# Altium schematic symbol library HANDS-FREEE-PcbLib-V1.9.SchLib: 157 symbols (part 1 of 2)
Pins are listed as number, name and electrical type; pins without a type are passive.

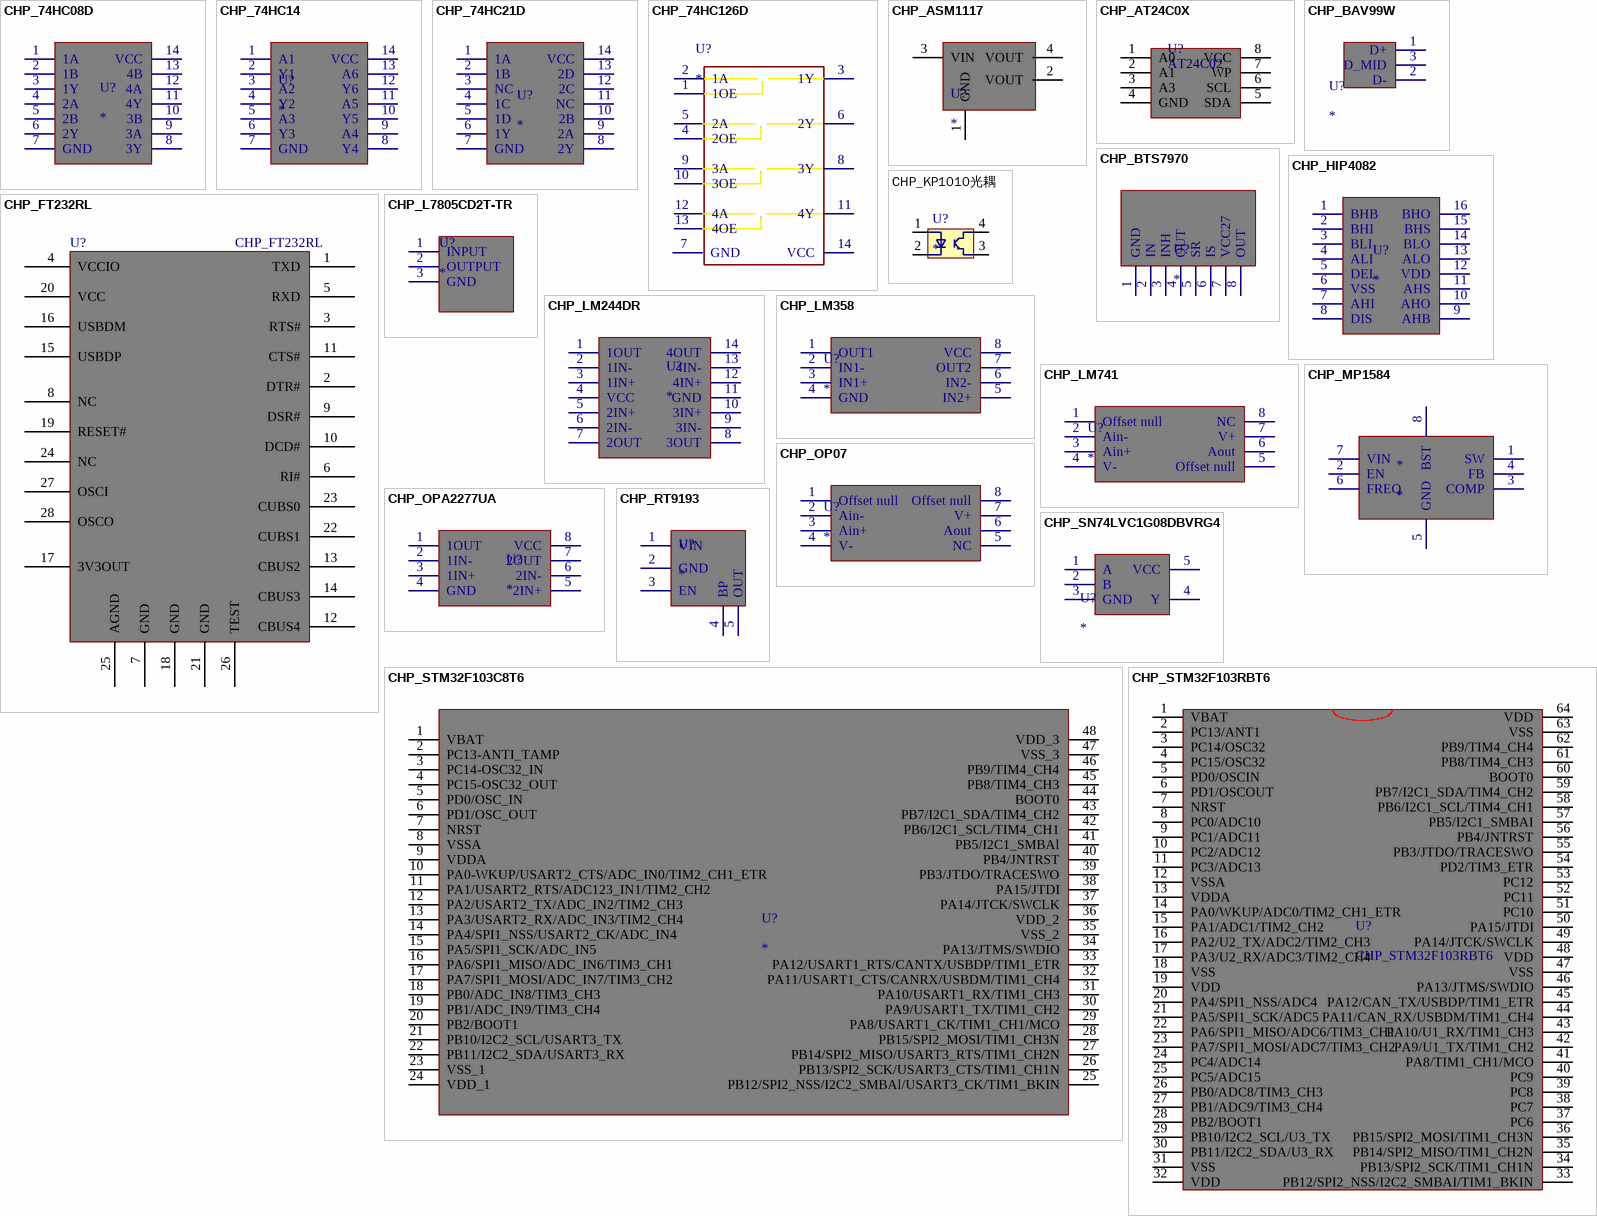
[diagram p0: symbols CHP_74HC08D to CHP_STM32F103RBT6]

## CHP_74HC08D
designator U?
贴片 CHP_74HC08D芯片 SOP_14P
footprint CHP_SOP_14P
pins: 1 1A, 2 1B, 3 1Y, 4 2A, 5 2B , 6 2Y, 7 GND, 8 3Y, 9 3A, 10 3B, 11 4Y, 12 4A, 13 4B, 14 VCC

## CHP_74HC14
designator U?
贴片 74HC14芯片 SOP_14P
footprint CHP_SOP_14P
pins: 1 A1, 2 Y1, 3 A2, 4 Y2, 5 A3, 6 Y3, 7 GND, 8 Y4, 9 A4, 10 Y5, 11 A5, 12 Y6, 13 A6, 14 VCC

## CHP_74HC21D
designator U?
贴片 74HC21D芯片 SOP_14P
footprint CHP_SOP_14P
pins: 1 1A, 2 1B, 3 NC, 4 1C, 5 1D, 6 1Y, 7 GND, 8 2Y, 9 2A, 10 2B, 11 NC, 12 2C, 13 2D, 14 VCC

## CHP_74HC126D
designator U?
贴片 74HC126D芯片 SOP_14P
footprint CHP_SOP_14P
pins: 1 1OE, 2 1A, 3 1Y, 4 2OE, 5 2A, 6 2Y, 7 GND, 8 3Y, 9 3A, 10 3OE, 11 4Y, 12 4A, 13 4OE, 14 VCC

## CHP_ASM1117
designator U?
贴片 AMS1117芯片 SOT223_4P
footprint CHP_SOT223_P_4P (SOT-223/SC-73; 4 Leads; Body 6.7 x 7.3 mm, inc. leads (LxW max))
pins: 1 GND, 2 VOUT, 3 VIN, 4 VOUT

## CHP_AT24C0X
designator U?, comment AT24C02
贴片 AT24芯片 SOP_8P; Value: AT24C0X; Published: 8-Jun-2000; LatestRevisionDate: 17-Jul-2002; LatestRevisionNote: Re-released for DXP Platform.; PackageReference: RB7.6-15; Publisher: Altium Limited
footprint CHP_SOP_8P
pins: 1 A0, 2 A1, 3 A3, 4 GND, 5 SDA, 6 SCL, 7 WP, 8 VCC

## CHP_BAV99W
designator U?
贴片 BAV99W芯片 SOT323_3P
footprint CHP_SOT323_P_3P
pins: 1 D+, 2 D-, 3 D_MID

## CHP_BTS7970
designator U?
贴片 BTS7960芯片 P-TO-263-7
footprint CHP_BTS7970_P-TO-263_7
pins: 1 GND, 2 IN, 3 INH, 4 OUT, 5 SR, 6 IS, 7 VCC27, 8 OUT

## CHP_FT232RL
designator U?
贴片 FT232芯片 SOP_28P
footprint CHP_SOP_28P
pins: 1 TXD, 2 DTR#, 3 RTS#, 4 VCCIO, 5 RXD, 6 RI#, 7 GND, 8 NC, 9 DSR#, 10 DCD#, 11 CTS#, 12 CBUS4, 13 CBUS2, 14 CBUS3, 15 USBDP, 16 USBDM, 17 3V3OUT, 18 GND, 19 RESET#, 20 VCC, 21 GND, 22 CUBS1, 23 CUBS0, 24 NC, 25 AGND, 26 TEST, 27 OSCI, 28 OSCO

## CHP_HIP4082
designator U?
贴片 HIP4082 芯片 SOP16
footprint CHP_SOP_16P
pins: 1 BHB, 2 BHI, 3 BLI, 4 ALI, 5 DEL, 6 VSS, 7 AHI, 8 DIS, 9 AHB, 10 AHO, 11 AHS, 12 VDD, 13 ALO, 14 BLO, 15 BHS, 16 BHO

## CHP_KP1010光耦
designator U?
贴片 K1010光耦 4P
footprint ELE_K1010光耦_4P
pins: 1, 2, 3, 4

## CHP_L7805CD2T-TR
designator U?
贴片 7805芯片 TOD2PAK
footprint CHP_TOD2PAK
pins: 1 INPUT, 2 OUTPUT, 3 GND

## CHP_LM244DR
designator U?
贴片 LM224DR芯片 4路运放 SOP14
footprint CHP_SOP_14P
pins: 1 1OUT, 2 1IN-, 3 1IN+, 4 VCC, 5 2IN+, 6 2IN-, 7 2OUT, 8 3OUT, 9 3IN-, 10 3IN+, 11 GND, 12 4IN+, 13 4IN-, 14 4OUT

## CHP_LM358
designator U?
贴片 LM358芯片 SOP_8P
footprint CHP_SOP_8P
pins: 1 OUT1, 2 IN1-, 3 IN1+, 4 GND, 5 IN2+, 6 IN2-, 7 OUT2, 8 VCC

## CHP_LM741
designator U?
贴片 LM741芯片 SOP_8P
footprint CHP_SOP_8P
pins: 1 Offset null, 2 Ain-, 3 Ain+, 4 V-, 5 Offset null, 6 Aout, 7 V+, 8 NC

## CHP_MP1584
designator *
贴片 MP1584芯片 SOP_8P
footprint CHP_SOP_8P
pins: 1 SW, 2 EN, 3 COMP, 4 FB, 5 GND, 6 FREQ, 7 VIN, 8 BST

## CHP_OP07
designator U?
贴片 OP07芯片 SOP_8P
footprint CHP_SOP_8P
pins: 1 Offset null, 2 Ain-, 3 Ain+, 4 V-, 5 NC, 6 Aout, 7 V+, 8 Offset null

## CHP_OPA2277UA
designator U?
贴片 OPA2277UA芯片 2路运放 SOP8
footprint CHP_SOP_8P
pins: 1 1OUT, 2 1IN-, 3 1IN+, 4 GND, 5 2IN+, 6 2IN-, 7 2OUT, 8 VCC

## CHP_RT9193
designator U?
贴片 RT9193稳压芯片 SOT23_5P 3.3v
footprint CHP_SOT23_P_5P
pins: 1 VIN, 2 GND, 3 EN, 4 BP, 5 OUT

## CHP_SN74LVC1G08DBVRG4
designator U?
贴片 SN74LVC芯片 SOT23_5P
footprint CHP_SOT23_P_5P
pins: 1 A, 2 B, 3 GND, 4 Y, 5 VCC

## CHP_STM32F103C8T6
designator U?
贴片 STM32 LQFP_48P
footprint CHP_LQFP_48P (Thin QFP, 48-Leads, Body 7x7mm, Pitch 0.5mm, IPC High Density)
pins: 1 VBAT, 2 PC13-ANTI_TAMP, 3 PC14-OSC32_IN, 4 PC15-OSC32_OUT, 5 PD0/OSC_IN, 6 PD1/OSC_OUT, 7 NRST, 8 VSSA, 9 VDDA, 10 PA0-WKUP/USART2_CTS/ADC_IN0/TIM2_CH1_ETR, 11 PA1/USART2_RTS/ADC123_IN1/TIM2_CH2, 12 PA2/USART2_TX/ADC_IN2/TIM2_CH3, 13 PA3/USART2_RX/ADC_IN3/TIM2_CH4, 14 PA4/SPI1_NSS/USART2_CK/ADC_IN4, 15 PA5/SPI1_SCK/ADC_IN5, 16 PA6/SPI1_MISO/ADC_IN6/TIM3_CH1, 17 PA7/SPI1_MOSI/ADC_IN7/TIM3_CH2, 18 PB0/ADC_IN8/TIM3_CH3, 19 PB1/ADC_IN9/TIM3_CH4, 20 PB2/BOOT1, 21 PB10/I2C2_SCL/USART3_TX, 22 PB11/I2C2_SDA/USART3_RX, 23 VSS_1, 24 VDD_1, 25 PB12/SPI2_NSS/I2C2_SMBAl/USART3_CK/TIM1_BKIN, 26 PB13/SPI2_SCK/USART3_CTS/TIM1_CH1N, 27 PB14/SPI2_MISO/USART3_RTS/TIM1_CH2N, 28 PB15/SPI2_MOSI/TIM1_CH3N, 29 PA8/USART1_CK/TIM1_CH1/MCO, 30 PA9/USART1_TX/TIM1_CH2, 31 PA10/USART1_RX/TIM1_CH3, 32 PA11/USART1_CTS/CANRX/USBDM/TIM1_CH4, 33 PA12/USART1_RTS/CANTX/USBDP/TIM1_ETR, 34 PA13/JTMS/SWDIO, 35 VSS_2, 36 VDD_2, 37 PA14/JTCK/SWCLK, 38 PA15/JTDI, 39 PB3/JTDO/TRACESWO, 40 PB4/JNTRST, 41 PB5/I2C1_SMBAl, 42 PB6/I2C1_SCL/TIM4_CH1, 43 PB7/I2C1_SDA/TIM4_CH2, 44 BOOT0, 45 PB8/TIM4_CH3, 46 PB9/TIM4_CH4, 47 VSS_3, 48 VDD_3

## CHP_STM32F103RBT6
designator U?
贴片 STM32 LQFP_64P
footprint CHP_LQFP_64P
pins: 1 VBAT, 2 PC13/ANT1, 3 PC14/OSC32, 4 PC15/OSC32, 5 PD0/OSCIN, 6 PD1/OSCOUT, 7 NRST, 8 PC0/ADC10, 9 PC1/ADC11, 10 PC2/ADC12, 11 PC3/ADC13, 12 VSSA, 13 VDDA, 14 PA0/WKUP/ADC0/TIM2_CH1_ETR, 15 PA1/ADC1/TIM2_CH2, 16 PA2/U2_TX/ADC2/TIM2_CH3, 17 PA3/U2_RX/ADC3/TIM2_CH4, 18 VSS, 19 VDD, 20 PA4/SPI1_NSS/ADC4, 21 PA5/SPI1_SCK/ADC5, 22 PA6/SPI1_MISO/ADC6/TIM3_CH1, 23 PA7/SPI1_MOSI/ADC7/TIM3_CH2, 24 PC4/ADC14, 25 PC5/ADC15, 26 PB0/ADC8/TIM3_CH3, 27 PB1/ADC9/TIM3_CH4, 28 PB2/BOOT1, 29 PB10/I2C2_SCL/U3_TX, 30 PB11/I2C2_SDA/U3_RX, 31 VSS, 32 VDD, 33 PB12/SPI2_NSS/I2C2_SMBAI/TIM1_BKIN, 34 PB13/SPI2_SCK/TIM1_CH1N, 35 PB14/SPI2_MISO/TIM1_CH2N, 36 PB15/SPI2_MOSI/TIM1_CH3N, 37 PC6, 38 PC7, 39 PC8, 40 PC9, 41 PA8/TIM1_CH1/MCO, 42 PA9/U1_TX/TIM1_CH2, 43 PA10/U1_RX/TIM1_CH3, 44 PA11/CAN_RX/USBDM/TIM1_CH4, 45 PA12/CAN_TX/USBDP/TIM1_ETR, 46 PA13/JTMS/SWDIO, 47 VSS, 48 VDD, 49 PA14/JTCK/SWCLK, 50 PA15/JTDI, 51 PC10, 52 PC11, 53 PC12, 54 PD2/TIM3_ETR, 55 PB3/JTDO/TRACESWO, 56 PB4/JNTRST, 57 PB5/I2C1_SMBAI, 58 PB6/I2C1_SCL/TIM4_CH1, 59 PB7/I2C1_SDA/TIM4_CH2, 60 BOOT0, 61 PB8/TIM4_CH3, 62 PB9/TIM4_CH4, 63 VSS, 64 VDD

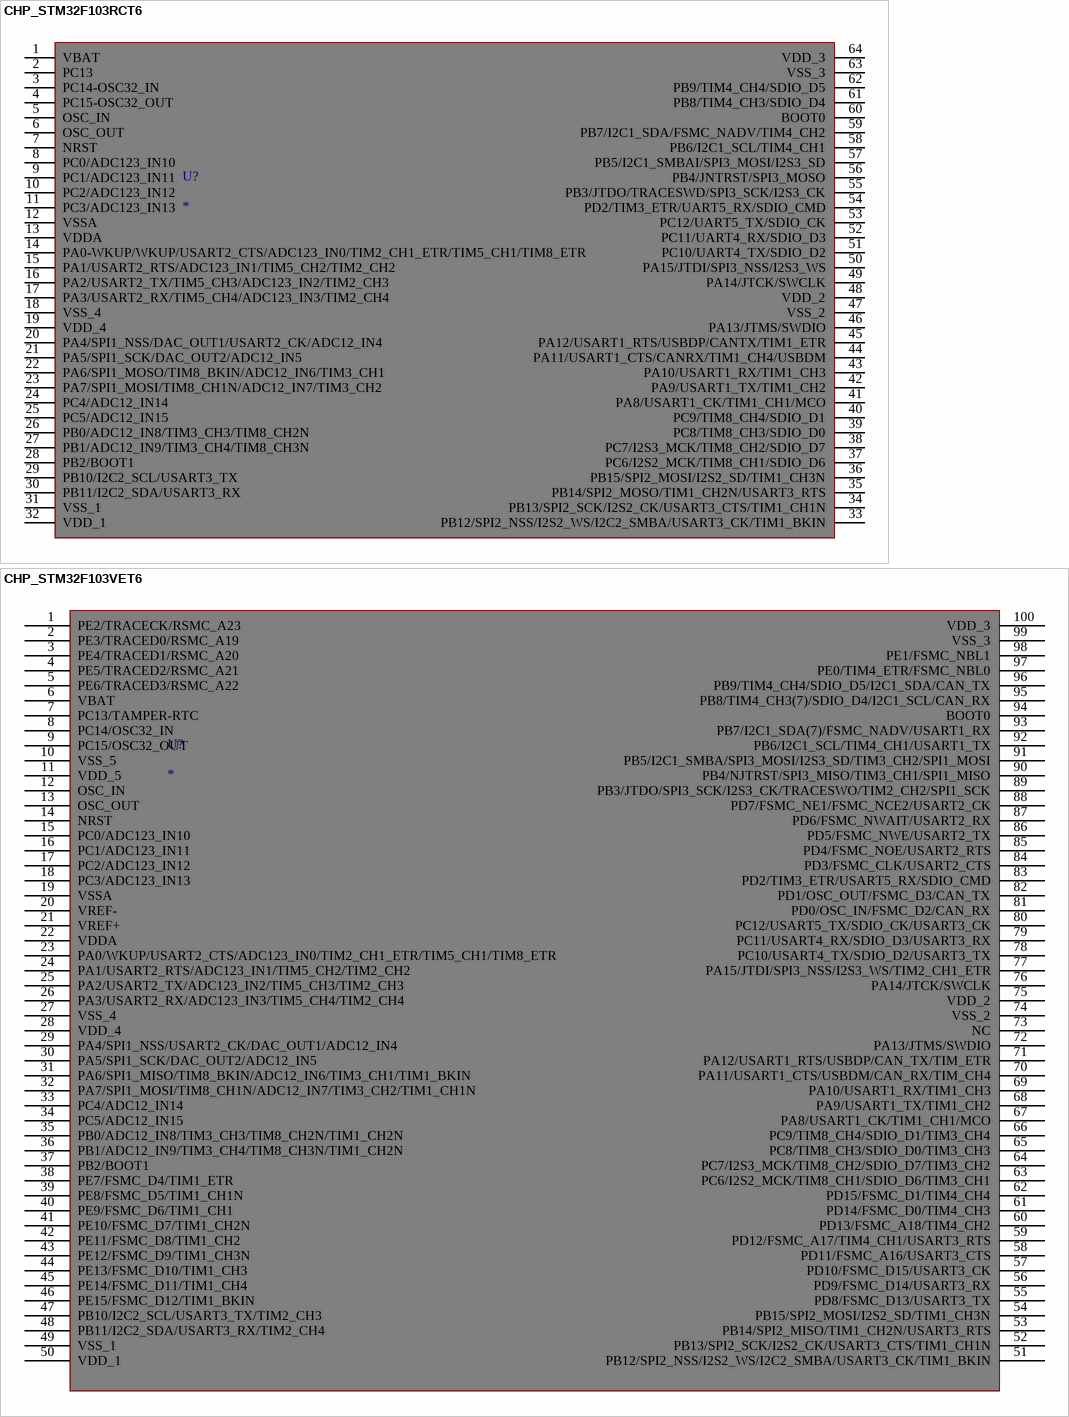
[diagram p1: symbols CHP_STM32F103RCT6 to CHP_STM32F103VET6]

## CHP_STM32F103RCT6
designator U?
贴片 STM32 LQFP_64P
footprint CHP_LQFP_64P
pins: 1 VBAT, 2 PC13, 3 PC14-OSC32_IN, 4 PC15-OSC32_OUT, 5 OSC_IN, 6 OSC_OUT, 7 NRST, 8 PC0/ADC123_IN10, 9 PC1/ADC123_IN11, 10 PC2/ADC123_IN12, 11 PC3/ADC123_IN13, 12 VSSA, 13 VDDA, 14 PA0-WKUP/WKUP/USART2_CTS/ADC123_IN0/TIM2_CH1_ETR/TIM5_CH1/TIM8_ETR, 15 PA1/USART2_RTS/ADC123_IN1/TIM5_CH2/TIM2_CH2, 16 PA2/USART2_TX/TIM5_CH3/ADC123_IN2/TIM2_CH3, 17 PA3/USART2_RX/TIM5_CH4/ADC123_IN3/TIM2_CH4, 18 VSS_4, 19 VDD_4, 20 PA4/SPI1_NSS/DAC_OUT1/USART2_CK/ADC12_IN4, 21 PA5/SPI1_SCK/DAC_OUT2/ADC12_IN5, 22 PA6/SPI1_MOSO/TIM8_BKIN/ADC12_IN6/TIM3_CH1, 23 PA7/SPI1_MOSI/TIM8_CH1N/ADC12_IN7/TIM3_CH2, 24 PC4/ADC12_IN14, 25 PC5/ADC12_IN15, 26 PB0/ADC12_IN8/TIM3_CH3/TIM8_CH2N, 27 PB1/ADC12_IN9/TIM3_CH4/TIM8_CH3N, 28 PB2/BOOT1, 29 PB10/I2C2_SCL/USART3_TX, 30 PB11/I2C2_SDA/USART3_RX, 31 VSS_1, 32 VDD_1, 33 PB12/SPI2_NSS/I2S2_WS/I2C2_SMBA/USART3_CK/TIM1_BKIN, 34 PB13/SPI2_SCK/I2S2_CK/USART3_CTS/TIM1_CH1N, 35 PB14/SPI2_MOSO/TIM1_CH2N/USART3_RTS, 36 PB15/SPI2_MOSI/I2S2_SD/TIM1_CH3N, 37 PC6/I2S2_MCK/TIM8_CH1/SDIO_D6, 38 PC7/I2S3_MCK/TIM8_CH2/SDIO_D7, 39 PC8/TIM8_CH3/SDIO_D0, 40 PC9/TIM8_CH4/SDIO_D1, 41 PA8/USART1_CK/TIM1_CH1/MCO, 42 PA9/USART1_TX/TIM1_CH2, 43 PA10/USART1_RX/TIM1_CH3, 44 PA11/USART1_CTS/CANRX/TIM1_CH4/USBDM, 45 PA12/USART1_RTS/USBDP/CANTX/TIM1_ETR, 46 PA13/JTMS/SWDIO, 47 VSS_2, 48 VDD_2, 49 PA14/JTCK/SWCLK, 50 PA15/JTDI/SPI3_NSS/I2S3_WS, 51 PC10/UART4_TX/SDIO_D2, 52 PC11/UART4_RX/SDIO_D3, 53 PC12/UART5_TX/SDIO_CK, 54 PD2/TIM3_ETR/UART5_RX/SDIO_CMD, 55 PB3/JTDO/TRACESWD/SPI3_SCK/I2S3_CK, 56 PB4/JNTRST/SPI3_MOSO, 57 PB5/I2C1_SMBAI/SPI3_MOSI/I2S3_SD, 58 PB6/I2C1_SCL/TIM4_CH1, 59 PB7/I2C1_SDA/FSMC_NADV/TIM4_CH2, 60 BOOT0, 61 PB8/TIM4_CH3/SDIO_D4, 62 PB9/TIM4_CH4/SDIO_D5, 63 VSS_3, 64 VDD_3

## CHP_STM32F103VET6
designator U?
贴片 STM32 LQFP_100P
footprint CHP_LQFP_100P (TSQFP, 100-Leads, Body 16.0x16.0mm (max), Pitch 0.50mm, IPC Medium Density)
pins: 1 PE2/TRACECK/RSMC_A23, 2 PE3/TRACED0/RSMC_A19, 3 PE4/TRACED1/RSMC_A20, 4 PE5/TRACED2/RSMC_A21, 5 PE6/TRACED3/RSMC_A22, 6 VBAT, 7 PC13/TAMPER-RTC, 8 PC14/OSC32_IN, 9 PC15/OSC32_OUT, 10 VSS_5, 11 VDD_5, 12 OSC_IN, 13 OSC_OUT, 14 NRST, 15 PC0/ADC123_IN10, 16 PC1/ADC123_IN11, 17 PC2/ADC123_IN12, 18 PC3/ADC123_IN13, 19 VSSA, 20 VREF-, 21 VREF+, 22 VDDA, 23 PA0/WKUP/USART2_CTS/ADC123_IN0/TIM2_CH1_ETR/TIM5_CH1/TIM8_ETR, 24 PA1/USART2_RTS/ADC123_IN1/TIM5_CH2/TIM2_CH2, 25 PA2/USART2_TX/ADC123_IN2/TIM5_CH3/TIM2_CH3, 26 PA3/USART2_RX/ADC123_IN3/TIM5_CH4/TIM2_CH4, 27 VSS_4, 28 VDD_4, 29 PA4/SPI1_NSS/USART2_CK/DAC_OUT1/ADC12_IN4, 30 PA5/SPI1_SCK/DAC_OUT2/ADC12_IN5, 31 PA6/SPI1_MISO/TIM8_BKIN/ADC12_IN6/TIM3_CH1/TIM1_BKIN, 32 PA7/SPI1_MOSI/TIM8_CH1N/ADC12_IN7/TIM3_CH2/TIM1_CH1N, 33 PC4/ADC12_IN14, 34 PC5/ADC12_IN15, 35 PB0/ADC12_IN8/TIM3_CH3/TIM8_CH2N/TIM1_CH2N, 36 PB1/ADC12_IN9/TIM3_CH4/TIM8_CH3N/TIM1_CH2N, 37 PB2/BOOT1, 38 PE7/FSMC_D4/TIM1_ETR, 39 PE8/FSMC_D5/TIM1_CH1N, 40 PE9/FSMC_D6/TIM1_CH1, 41 PE10/FSMC_D7/TIM1_CH2N, 42 PE11/FSMC_D8/TIM1_CH2, 43 PE12/FSMC_D9/TIM1_CH3N, 44 PE13/FSMC_D10/TIM1_CH3, 45 PE14/FSMC_D11/TIM1_CH4, 46 PE15/FSMC_D12/TIM1_BKIN, 47 PB10/I2C2_SCL/USART3_TX/TIM2_CH3, 48 PB11/I2C2_SDA/USART3_RX/TIM2_CH4, 49 VSS_1, 50 VDD_1, 51 PB12/SPI2_NSS/I2S2_WS/I2C2_SMBA/USART3_CK/TIM1_BKIN, 52 PB13/SPI2_SCK/I2S2_CK/USART3_CTS/TIM1_CH1N, 53 PB14/SPI2_MISO/TIM1_CH2N/USART3_RTS, 54 PB15/SPI2_MOSI/I2S2_SD/TIM1_CH3N, 55 PD8/FSMC_D13/USART3_TX, 56 PD9/FSMC_D14/USART3_RX, 57 PD10/FSMC_D15/USART3_CK, 58 PD11/FSMC_A16/USART3_CTS, 59 PD12/FSMC_A17/TIM4_CH1/USART3_RTS, 60 PD13/FSMC_A18/TIM4_CH2, 61 PD14/FSMC_D0/TIM4_CH3, 62 PD15/FSMC_D1/TIM4_CH4, 63 PC6/I2S2_MCK/TIM8_CH1/SDIO_D6/TIM3_CH1, 64 PC7/I2S3_MCK/TIM8_CH2/SDIO_D7/TIM3_CH2, 65 PC8/TIM8_CH3/SDIO_D0/TIM3_CH3, 66 PC9/TIM8_CH4/SDIO_D1/TIM3_CH4, 67 PA8/USART1_CK/TIM1_CH1/MCO, 68 PA9/USART1_TX/TIM1_CH2, 69 PA10/USART1_RX/TIM1_CH3, 70 PA11/USART1_CTS/USBDM/CAN_RX/TIM_CH4, 71 PA12/USART1_RTS/USBDP/CAN_TX/TIM_ETR, 72 PA13/JTMS/SWDIO, 73 NC, 74 VSS_2, 75 VDD_2, 76 PA14/JTCK/SWCLK, 77 PA15/JTDI/SPI3_NSS/I2S3_WS/TIM2_CH1_ETR, 78 PC10/USART4_TX/SDIO_D2/USART3_TX, 79 PC11/USART4_RX/SDIO_D3/USART3_RX, 80 PC12/USART5_TX/SDIO_CK/USART3_CK, 81 PD0/OSC_IN/FSMC_D2/CAN_RX, 82 PD1/OSC_OUT/FSMC_D3/CAN_TX, 83 PD2/TIM3_ETR/USART5_RX/SDIO_CMD, 84 PD3/FSMC_CLK/USART2_CTS, 85 PD4/FSMC_NOE/USART2_RTS, 86 PD5/FSMC_NWE/USART2_TX, 87 PD6/FSMC_NWAIT/USART2_RX, 88 PD7/FSMC_NE1/FSMC_NCE2/USART2_CK, 89 PB3/JTDO/SPI3_SCK/I2S3_CK/TRACESWO/TIM2_CH2/SPI1_SCK, 90 PB4/NJTRST/SPI3_MISO/TIM3_CH1/SPI1_MISO, 91 PB5/I2C1_SMBA/SPI3_MOSI/I2S3_SD/TIM3_CH2/SPI1_MOSI, 92 PB6/I2C1_SCL/TIM4_CH1/USART1_TX, 93 PB7/I2C1_SDA(7)/FSMC_NADV/USART1_RX, 94 BOOT0, 95 PB8/TIM4_CH3(7)/SDIO_D4/I2C1_SCL/CAN_RX, 96 PB9/TIM4_CH4/SDIO_D5/I2C1_SDA/CAN_TX, 97 PE0/TIM4_ETR/FSMC_NBL0, 98 PE1/FSMC_NBL1, 99 VSS_3, 100 VDD_3

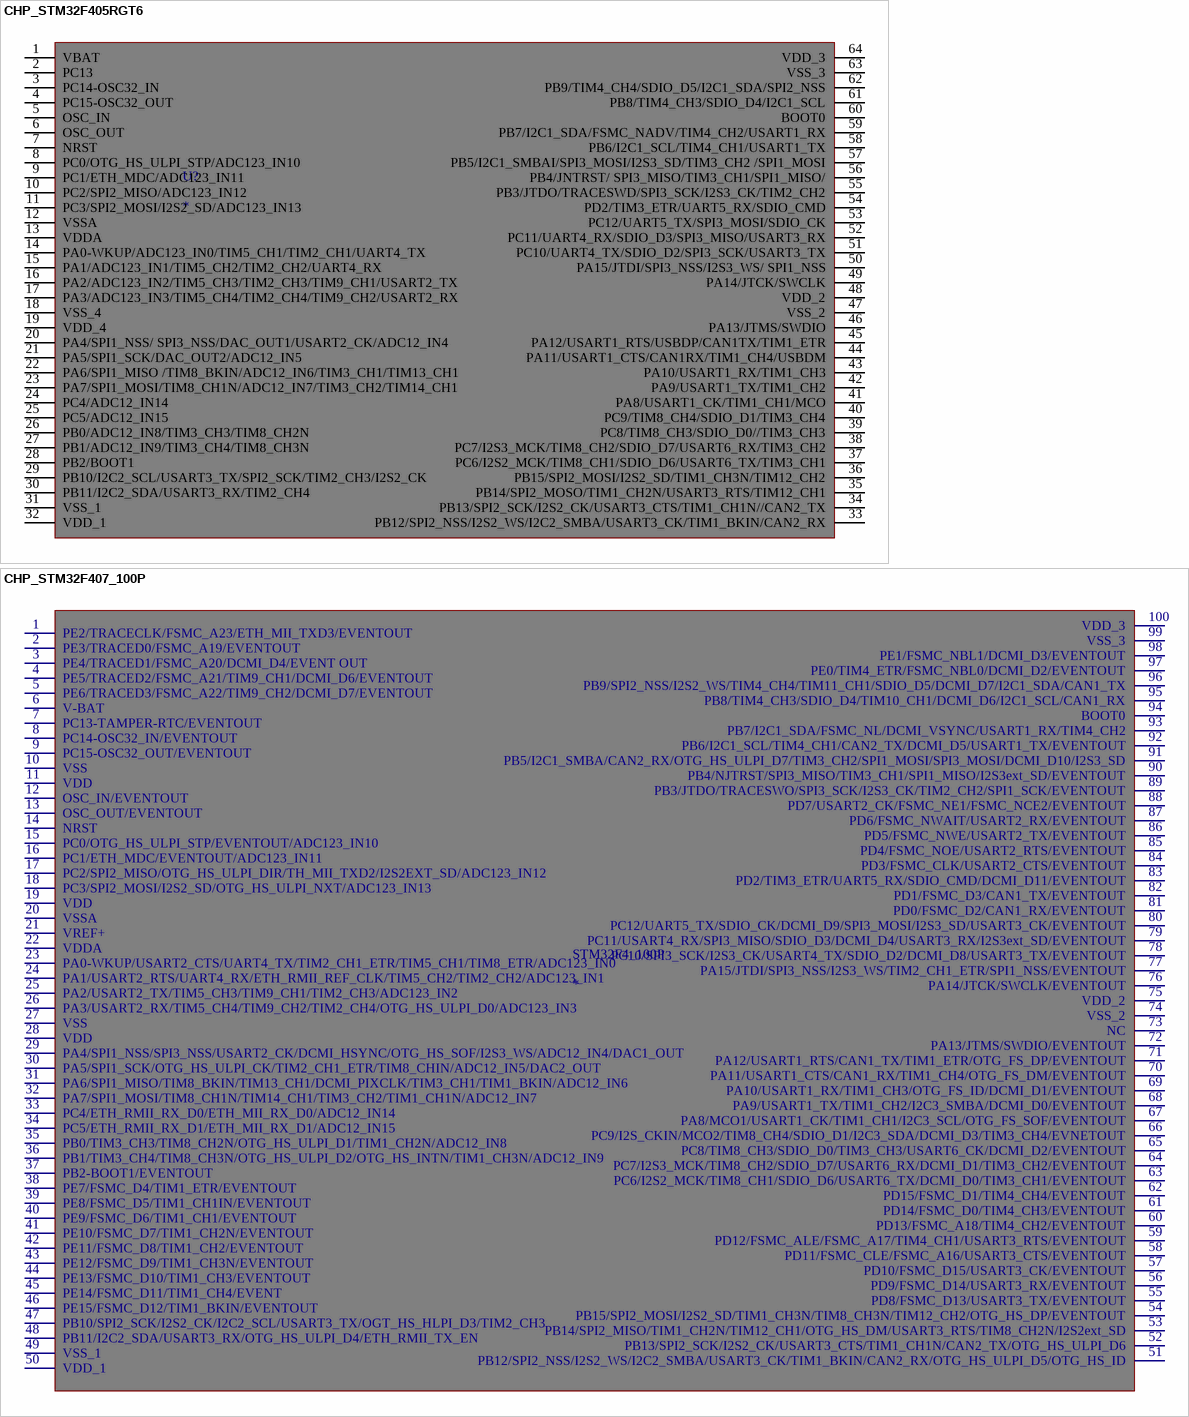
[diagram p2: symbols CHP_STM32F405RGT6 to CHP_STM32F407_100P]

## CHP_STM32F405RGT6
designator U?
贴片 STM32 LQFP_64P
footprint CHP_LQFP_64P
pins: 1 VBAT, 2 PC13, 3 PC14-OSC32_IN, 4 PC15-OSC32_OUT, 5 OSC_IN, 6 OSC_OUT, 7 NRST, 8 PC0/OTG_HS_ULPI_STP/ADC123_IN10, 9 PC1/ETH_MDC/ADC123_IN11, 10 PC2/SPI2_MISO/ADC123_IN12, 11 PC3/SPI2_MOSI/I2S2_SD/ADC123_IN13, 12 VSSA, 13 VDDA, 14 PA0-WKUP/ADC123_IN0/TIM5_CH1/TIM2_CH1/UART4_TX, 15 PA1/ADC123_IN1/TIM5_CH2/TIM2_CH2/UART4_RX, 16 PA2/ADC123_IN2/TIM5_CH3/TIM2_CH3/TIM9_CH1/USART2_TX, 17 PA3/ADC123_IN3/TIM5_CH4/TIM2_CH4/TIM9_CH2/USART2_RX, 18 VSS_4, 19 VDD_4, 20 PA4/SPI1_NSS/ SPI3_NSS/DAC_OUT1/USART2_CK/ADC12_IN4, 21 PA5/SPI1_SCK/DAC_OUT2/ADC12_IN5, 22 PA6/SPI1_MISO /TIM8_BKIN/ADC12_IN6/TIM3_CH1/TIM13_CH1, 23 PA7/SPI1_MOSI/TIM8_CH1N/ADC12_IN7/TIM3_CH2/TIM14_CH1, 24 PC4/ADC12_IN14, 25 PC5/ADC12_IN15, 26 PB0/ADC12_IN8/TIM3_CH3/TIM8_CH2N, 27 PB1/ADC12_IN9/TIM3_CH4/TIM8_CH3N, 28 PB2/BOOT1, 29 PB10/I2C2_SCL/USART3_TX/SPI2_SCK/TIM2_CH3/I2S2_CK, 30 PB11/I2C2_SDA/USART3_RX/TIM2_CH4, 31 VSS_1, 32 VDD_1, 33 PB12/SPI2_NSS/I2S2_WS/I2C2_SMBA/USART3_CK/TIM1_BKIN/CAN2_RX, 34 PB13/SPI2_SCK/I2S2_CK/USART3_CTS/TIM1_CH1N//CAN2_TX, 35 PB14/SPI2_MOSO/TIM1_CH2N/USART3_RTS/TIM12_CH1, 36 PB15/SPI2_MOSI/I2S2_SD/TIM1_CH3N/TIM12_CH2, 37 PC6/I2S2_MCK/TIM8_CH1/SDIO_D6/USART6_TX/TIM3_CH1, 38 PC7/I2S3_MCK/TIM8_CH2/SDIO_D7/USART6_RX/TIM3_CH2, 39 PC8/TIM8_CH3/SDIO_D0//TIM3_CH3, 40 PC9/TIM8_CH4/SDIO_D1/TIM3_CH4, 41 PA8/USART1_CK/TIM1_CH1/MCO, 42 PA9/USART1_TX/TIM1_CH2, 43 PA10/USART1_RX/TIM1_CH3, 44 PA11/USART1_CTS/CAN1RX/TIM1_CH4/USBDM, 45 PA12/USART1_RTS/USBDP/CAN1TX/TIM1_ETR, 46 PA13/JTMS/SWDIO, 47 VSS_2, 48 VDD_2, 49 PA14/JTCK/SWCLK, 50 PA15/JTDI/SPI3_NSS/I2S3_WS/ SPI1_NSS, 51 PC10/UART4_TX/SDIO_D2/SPI3_SCK/USART3_TX, 52 PC11/UART4_RX/SDIO_D3/SPI3_MISO/USART3_RX, 53 PC12/UART5_TX/SPI3_MOSI/SDIO_CK, 54 PD2/TIM3_ETR/UART5_RX/SDIO_CMD, 55 PB3/JTDO/TRACESWD/SPI3_SCK/I2S3_CK/TIM2_CH2, 56 PB4/JNTRST/ SPI3_MISO/TIM3_CH1/SPI1_MISO/, 57 PB5/I2C1_SMBAI/SPI3_MOSI/I2S3_SD/TIM3_CH2 /SPI1_MOSI, 58 PB6/I2C1_SCL/TIM4_CH1/USART1_TX, 59 PB7/I2C1_SDA/FSMC_NADV/TIM4_CH2/USART1_RX, 60 BOOT0, 61 PB8/TIM4_CH3/SDIO_D4/I2C1_SCL, 62 PB9/TIM4_CH4/SDIO_D5/I2C1_SDA/SPI2_NSS, 63 VSS_3, 64 VDD_3

## CHP_STM32F407_100P
designator STM32F4_100P
贴片 STM32 LQFP_100P
footprint CHP_LQFP_100P (TSQFP, 100-Leads, Body 16.0x16.0mm (max), Pitch 0.50mm, IPC Medium Density)
pins: 1 PE2/TRACECLK/FSMC_A23/ETH_MII_TXD3/EVENTOUT, 2 PE3/TRACED0/FSMC_A19/EVENTOUT, 3 PE4/TRACED1/FSMC_A20/DCMI_D4/EVENT OUT, 4 PE5/TRACED2/FSMC_A21/TIM9_CH1/DCMI_D6/EVENTOUT, 5 PE6/TRACED3/FSMC_A22/TIM9_CH2/DCMI_D7/EVENTOUT, 6 V-BAT, 7 PC13-TAMPER-RTC/EVENTOUT, 8 PC14-OSC32_IN/EVENTOUT, 9 PC15-OSC32_OUT/EVENTOUT, 10 VSS, 11 VDD, 12 OSC_IN/EVENTOUT, 13 OSC_OUT/EVENTOUT, 14 NRST, 15 PC0/OTG_HS_ULPI_STP/EVENTOUT/ADC123_IN10, 16 PC1/ETH_MDC/EVENTOUT/ADC123_IN11, 17 PC2/SPI2_MISO/OTG_HS_ULPI_DIR/TH_MII_TXD2/I2S2EXT_SD/ADC123_IN12, 18 PC3/SPI2_MOSI/I2S2_SD/OTG_HS_ULPI_NXT/ADC123_IN13, 19 VDD, 20 VSSA, 21 VREF+, 22 VDDA, 23 PA0-WKUP/USART2_CTS/UART4_TX/TIM2_CH1_ETR/TIM5_CH1/TIM8_ETR/ADC123_IN0, 24 PA1/USART2_RTS/UART4_RX/ETH_RMII_REF_CLK/TIM5_CH2/TIM2_CH2/ADC123_IN1, 25 PA2/USART2_TX/TIM5_CH3/TIM9_CH1/TIM2_CH3/ADC123_IN2, 26 PA3/USART2_RX/TIM5_CH4/TIM9_CH2/TIM2_CH4/OTG_HS_ULPI_D0/ADC123_IN3, 27 VSS, 28 VDD, 29 PA4/SPI1_NSS/SPI3_NSS/USART2_CK/DCMI_HSYNC/OTG_HS_SOF/I2S3_WS/ADC12_IN4/DAC1_OUT, 30 PA5/SPI1_SCK/OTG_HS_ULPI_CK/TIM2_CH1_ETR/TIM8_CHIN/ADC12_IN5/DAC2_OUT, 31 PA6/SPI1_MISO/TIM8_BKIN/TIM13_CH1/DCMI_PIXCLK/TIM3_CH1/TIM1_BKIN/ADC12_IN6, 32 PA7/SPI1_MOSI/TIM8_CH1N/TIM14_CH1/TIM3_CH2/TIM1_CH1N/ADC12_IN7, 33 PC4/ETH_RMII_RX_D0/ETH_MII_RX_D0/ADC12_IN14, 34 PC5/ETH_RMII_RX_D1/ETH_MII_RX_D1/ADC12_IN15, 35 PB0/TIM3_CH3/TIM8_CH2N/OTG_HS_ULPI_D1/TIM1_CH2N/ADC12_IN8, 36 PB1/TIM3_CH4/TIM8_CH3N/OTG_HS_ULPI_D2/OTG_HS_INTN/TIM1_CH3N/ADC12_IN9, 37 PB2-BOOT1/EVENTOUT, 38 PE7/FSMC_D4/TIM1_ETR/EVENTOUT, 39 PE8/FSMC_D5/TIM1_CH1IN/EVENTOUT, 40 PE9/FSMC_D6/TIM1_CH1/EVENTOUT, 41 PE10/FSMC_D7/TIM1_CH2N/EVENTOUT, 42 PE11/FSMC_D8/TIM1_CH2/EVENTOUT, 43 PE12/FSMC_D9/TIM1_CH3N/EVENTOUT, 44 PE13/FSMC_D10/TIM1_CH3/EVENTOUT, 45 PE14/FSMC_D11/TIM1_CH4/EVENT, 46 PE15/FSMC_D12/TIM1_BKIN/EVENTOUT, 47 PB10/SPI2_SCK/I2S2_CK/I2C2_SCL/USART3_TX/OGT_HS_HLPI_D3/TIM2_CH3, 48 PB11/I2C2_SDA/USART3_RX/OTG_HS_ULPI_D4/ETH_RMII_TX_EN, 49 VSS_1, 50 VDD_1, 51 PB12/SPI2_NSS/I2S2_WS/I2C2_SMBA/USART3_CK/TIM1_BKIN/CAN2_RX/OTG_HS_ULPI_D5/OTG_HS_ID, 52 PB13/SPI2_SCK/I2S2_CK/USART3_CTS/TIM1_CH1N/CAN2_TX/OTG_HS_ULPI_D6, 53 PB14/SPI2_MISO/TIM1_CH2N/TIM12_CH1/OTG_HS_DM/USART3_RTS/TIM8_CH2N/I2S2ext_SD, 54 PB15/SPI2_MOSI/I2S2_SD/TIM1_CH3N/TIM8_CH3N/TIM12_CH2/OTG_HS_DP/EVENTOUT, 55 PD8/FSMC_D13/USART3_TX/EVENTOUT, 56 PD9/FSMC_D14/USART3_RX/EVENTOUT, 57 PD10/FSMC_D15/USART3_CK/EVENTOUT, 58 PD11/FSMC_CLE/FSMC_A16/USART3_CTS/EVENTOUT, 59 PD12/FSMC_ALE/FSMC_A17/TIM4_CH1/USART3_RTS/EVENTOUT, 60 PD13/FSMC_A18/TIM4_CH2/EVENTOUT, 61 PD14/FSMC_D0/TIM4_CH3/EVENTOUT, 62 PD15/FSMC_D1/TIM4_CH4/EVENTOUT, 63 PC6/I2S2_MCK/TIM8_CH1/SDIO_D6/USART6_TX/DCMI_D0/TIM3_CH1/EVENTOUT, 64 PC7/I2S3_MCK/TIM8_CH2/SDIO_D7/USART6_RX/DCMI_D1/TIM3_CH2/EVENTOUT, 65 PC8/TIM8_CH3/SDIO_D0/TIM3_CH3/USART6_CK/DCMI_D2/EVENTOUT, 66 PC9/I2S_CKIN/MCO2/TIM8_CH4/SDIO_D1/I2C3_SDA/DCMI_D3/TIM3_CH4/EVNETOUT, 67 PA8/MCO1/USART1_CK/TIM1_CH1/I2C3_SCL/OTG_FS_SOF/EVENTOUT, 68 PA9/USART1_TX/TIM1_CH2/I2C3_SMBA/DCMI_D0/EVENTOUT, 69 PA10/USART1_RX/TIM1_CH3/OTG_FS_ID/DCMI_D1/EVENTOUT, 70 PA11/USART1_CTS/CAN1_RX/TIM1_CH4/OTG_FS_DM/EVENTOUT, 71 PA12/USART1_RTS/CAN1_TX/TIM1_ETR/OTG_FS_DP/EVENTOUT, 72 PA13/JTMS/SWDIO/EVENTOUT, 73 NC, 74 VSS_2, 75 VDD_2, 76 PA14/JTCK/SWCLK/EVENTOUT, 77 PA15/JTDI/SPI3_NSS/I2S3_WS/TIM2_CH1_ETR/SPI1_NSS/EVENTOUT, 78 PC10/SPI3_SCK/I2S3_CK/USART4_TX/SDIO_D2/DCMI_D8/USART3_TX/EVENTOUT, 79 PC11/USART4_RX/SPI3_MISO/SDIO_D3/DCMI_D4/USART3_RX/I2S3ext_SD/EVENTOUT, 80 PC12/UART5_TX/SDIO_CK/DCMI_D9/SPI3_MOSI/I2S3_SD/USART3_CK/EVENTOUT, 81 PD0/FSMC_D2/CAN1_RX/EVENTOUT, 82 PD1/FSMC_D3/CAN1_TX/EVENTOUT, 83 PD2/TIM3_ETR/UART5_RX/SDIO_CMD/DCMI_D11/EVENTOUT, 84 PD3/FSMC_CLK/USART2_CTS/EVENTOUT, 85 PD4/FSMC_NOE/USART2_RTS/EVENTOUT, 86 PD5/FSMC_NWE/USART2_TX/EVENTOUT, 87 PD6/FSMC_NWAIT/USART2_RX/EVENTOUT, 88 PD7/USART2_CK/FSMC_NE1/FSMC_NCE2/EVENTOUT, 89 PB3/JTDO/TRACESWO/SPI3_SCK/I2S3_CK/TIM2_CH2/SPI1_SCK/EVENTOUT, 90 PB4/NJTRST/SPI3_MISO/TIM3_CH1/SPI1_MISO/I2S3ext_SD/EVENTOUT, 91 PB5/I2C1_SMBA/CAN2_RX/OTG_HS_ULPI_D7/TIM3_CH2/SPI1_MOSI/SPI3_MOSI/DCMI_D10/I2S3_SD, 92 PB6/I2C1_SCL/TIM4_CH1/CAN2_TX/DCMI_D5/USART1_TX/EVENTOUT, 93 PB7/I2C1_SDA/FSMC_NL/DCMI_VSYNC/USART1_RX/TIM4_CH2, 94 BOOT0, 95 PB8/TIM4_CH3/SDIO_D4/TIM10_CH1/DCMI_D6/I2C1_SCL/CAN1_RX, 96 PB9/SPI2_NSS/I2S2_WS/TIM4_CH4/TIM11_CH1/SDIO_D5/DCMI_D7/I2C1_SDA/CAN1_TX, 97 PE0/TIM4_ETR/FSMC_NBL0/DCMI_D2/EVENTOUT, 98 PE1/FSMC_NBL1/DCMI_D3/EVENTOUT, 99 VSS_3, 100 VDD_3

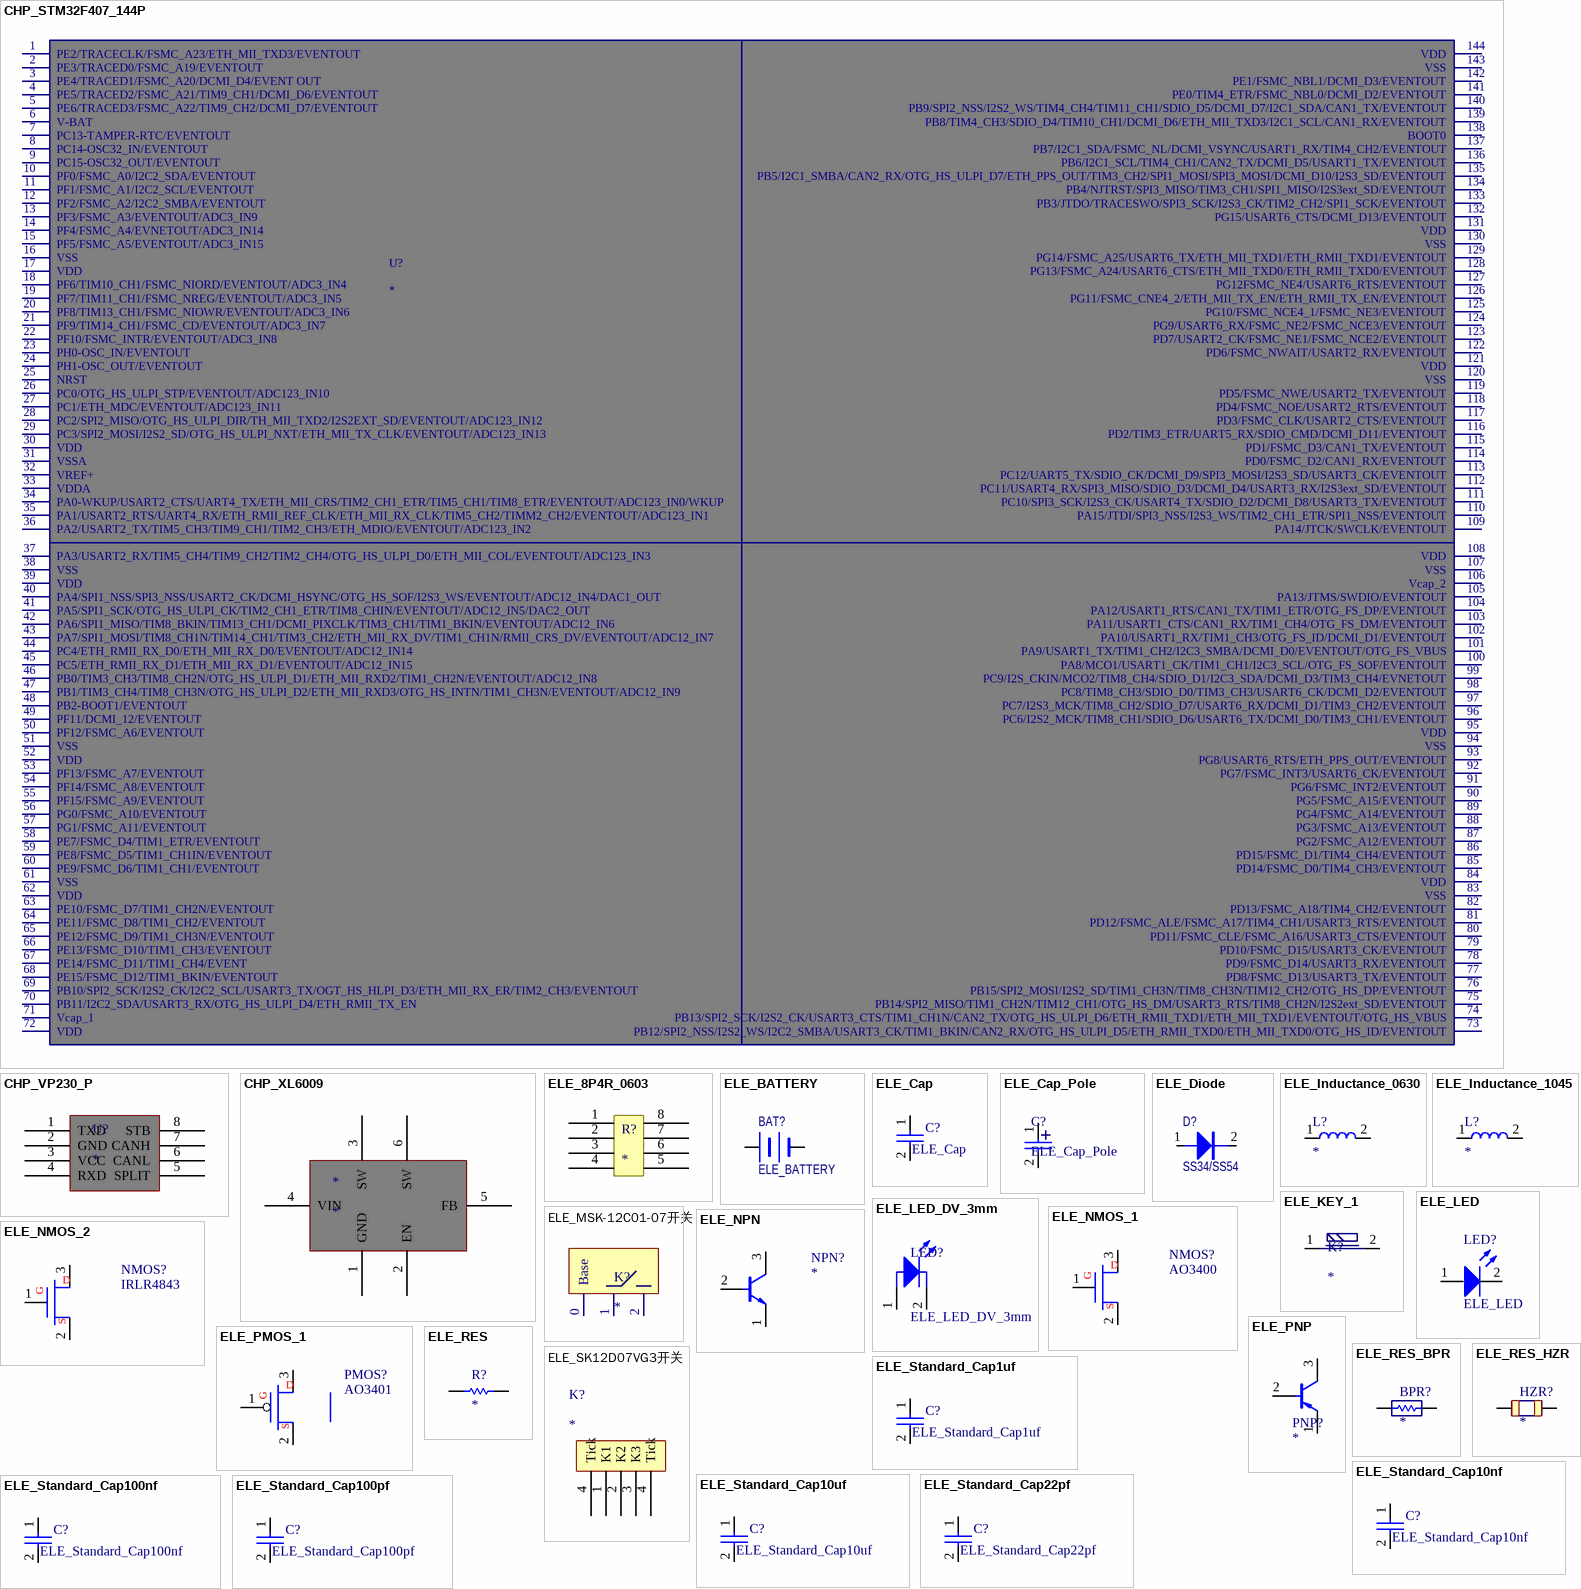
[diagram p3: symbols CHP_STM32F407_144P to ELE_Standard_Cap100pf]

## CHP_STM32F407_144P
designator U?
贴片 STM32 LQFP_144P
footprint CHP_LQFP_144P
pins: 1 PE2/TRACECLK/FSMC_A23/ETH_MII_TXD3/EVENTOUT, 2 PE3/TRACED0/FSMC_A19/EVENTOUT, 3 PE4/TRACED1/FSMC_A20/DCMI_D4/EVENT OUT, 4 PE5/TRACED2/FSMC_A21/TIM9_CH1/DCMI_D6/EVENTOUT, 5 PE6/TRACED3/FSMC_A22/TIM9_CH2/DCMI_D7/EVENTOUT, 6 V-BAT, 7 PC13-TAMPER-RTC/EVENTOUT, 8 PC14-OSC32_IN/EVENTOUT, 9 PC15-OSC32_OUT/EVENTOUT, 10 PF0/FSMC_A0/I2C2_SDA/EVENTOUT, 11 PF1/FSMC_A1/I2C2_SCL/EVENTOUT, 12 PF2/FSMC_A2/I2C2_SMBA/EVENTOUT, 13 PF3/FSMC_A3/EVENTOUT/ADC3_IN9, 14 PF4/FSMC_A4/EVNETOUT/ADC3_IN14, 15 PF5/FSMC_A5/EVENTOUT/ADC3_IN15, 16 VSS, 17 VDD, 18 PF6/TIM10_CH1/FSMC_NIORD/EVENTOUT/ADC3_IN4, 19 PF7/TIM11_CH1/FSMC_NREG/EVENTOUT/ADC3_IN5, 20 PF8/TIM13_CH1/FSMC_NIOWR/EVENTOUT/ADC3_IN6, 21 PF9/TIM14_CH1/FSMC_CD/EVENTOUT/ADC3_IN7, 22 PF10/FSMC_INTR/EVENTOUT/ADC3_IN8, 23 PH0-OSC_IN/EVENTOUT, 24 PH1-OSC_OUT/EVENTOUT, 25 NRST, 26 PC0/OTG_HS_ULPI_STP/EVENTOUT/ADC123_IN10, 27 PC1/ETH_MDC/EVENTOUT/ADC123_IN11, 28 PC2/SPI2_MISO/OTG_HS_ULPI_DIR/TH_MII_TXD2/I2S2EXT_SD/EVENTOUT/ADC123_IN12, 29 PC3/SPI2_MOSI/I2S2_SD/OTG_HS_ULPI_NXT/ETH_MII_TX_CLK/EVENTOUT/ADC123_IN13, 30 VDD, 31 VSSA, 32 VREF+, 33 VDDA, 34 PA0-WKUP/USART2_CTS/UART4_TX/ETH_MII_CRS/TIM2_CH1_ETR/TIM5_CH1/TIM8_ETR/EVENTOUT/ADC123_IN0/WKUP, 35 PA1/USART2_RTS/UART4_RX/ETH_RMII_REF_CLK/ETH_MII_RX_CLK/TIM5_CH2/TIMM2_CH2/EVENTOUT/ADC123_IN1, 36 PA2/USART2_TX/TIM5_CH3/TIM9_CH1/TIM2_CH3/ETH_MDIO/EVENTOUT/ADC123_IN2, 37 PA3/USART2_RX/TIM5_CH4/TIM9_CH2/TIM2_CH4/OTG_HS_ULPI_D0/ETH_MII_COL/EVENTOUT/ADC123_IN3, 38 VSS, 39 VDD, 40 PA4/SPI1_NSS/SPI3_NSS/USART2_CK/DCMI_HSYNC/OTG_HS_SOF/I2S3_WS/EVENTOUT/ADC12_IN4/DAC1_OUT, 41 PA5/SPI1_SCK/OTG_HS_ULPI_CK/TIM2_CH1_ETR/TIM8_CHIN/EVENTOUT/ADC12_IN5/DAC2_OUT, 42 PA6/SPI1_MISO/TIM8_BKIN/TIM13_CH1/DCMI_PIXCLK/TIM3_CH1/TIM1_BKIN/EVENTOUT/ADC12_IN6, 43 PA7/SPI1_MOSI/TIM8_CH1N/TIM14_CH1/TIM3_CH2/ETH_MII_RX_DV/TIM1_CH1N/RMII_CRS_DV/EVENTOUT/ADC12_IN7, 44 PC4/ETH_RMII_RX_D0/ETH_MII_RX_D0/EVENTOUT/ADC12_IN14, 45 PC5/ETH_RMII_RX_D1/ETH_MII_RX_D1/EVENTOUT/ADC12_IN15, 46 PB0/TIM3_CH3/TIM8_CH2N/OTG_HS_ULPI_D1/ETH_MII_RXD2/TIM1_CH2N/EVENTOUT/ADC12_IN8, 47 PB1/TIM3_CH4/TIM8_CH3N/OTG_HS_ULPI_D2/ETH_MII_RXD3/OTG_HS_INTN/TIM1_CH3N/EVENTOUT/ADC12_IN9, 48 PB2-BOOT1/EVENTOUT, 49 PF11/DCMI_12/EVENTOUT, 50 PF12/FSMC_A6/EVENTOUT, 51 VSS, 52 VDD, 53 PF13/FSMC_A7/EVENTOUT, 54 PF14/FSMC_A8/EVENTOUT, 55 PF15/FSMC_A9/EVENTOUT, 56 PG0/FSMC_A10/EVENTOUT, 57 PG1/FSMC_A11/EVENTOUT, 58 PE7/FSMC_D4/TIM1_ETR/EVENTOUT, 59 PE8/FSMC_D5/TIM1_CH1IN/EVENTOUT, 60 PE9/FSMC_D6/TIM1_CH1/EVENTOUT, 61 VSS, 62 VDD, 63 PE10/FSMC_D7/TIM1_CH2N/EVENTOUT, 64 PE11/FSMC_D8/TIM1_CH2/EVENTOUT, 65 PE12/FSMC_D9/TIM1_CH3N/EVENTOUT, 66 PE13/FSMC_D10/TIM1_CH3/EVENTOUT, 67 PE14/FSMC_D11/TIM1_CH4/EVENT, 68 PE15/FSMC_D12/TIM1_BKIN/EVENTOUT, 69 PB10/SPI2_SCK/I2S2_CK/I2C2_SCL/USART3_TX/OGT_HS_HLPI_D3/ETH_MII_RX_ER/TIM2_CH3/EVENTOUT, 70 PB11/I2C2_SDA/USART3_RX/OTG_HS_ULPI_D4/ETH_RMII_TX_EN, 71 Vcap_1, 72 VDD, 73 PB12/SPI2_NSS/I2S2_WS/I2C2_SMBA/USART3_CK/TIM1_BKIN/CAN2_RX/OTG_HS_ULPI_D5/ETH_RMII_TXD0/ETH_MII_TXD0/OTG_HS_ID/EVENTOUT, 74 PB13/SPI2_SCK/I2S2_CK/USART3_CTS/TIM1_CH1N/CAN2_TX/OTG_HS_ULPI_D6/ETH_RMII_TXD1/ETH_MII_TXD1/EVENTOUT/OTG_HS_VBUS, 75 PB14/SPI2_MISO/TIM1_CH2N/TIM12_CH1/OTG_HS_DM/USART3_RTS/TIM8_CH2N/I2S2ext_SD/EVENTOUT, 76 PB15/SPI2_MOSI/I2S2_SD/TIM1_CH3N/TIM8_CH3N/TIM12_CH2/OTG_HS_DP/EVENTOUT, 77 PD8/FSMC_D13/USART3_TX/EVENTOUT, 78 PD9/FSMC_D14/USART3_RX/EVENTOUT, 79 PD10/FSMC_D15/USART3_CK/EVENTOUT, 80 PD11/FSMC_CLE/FSMC_A16/USART3_CTS/EVENTOUT, 81 PD12/FSMC_ALE/FSMC_A17/TIM4_CH1/USART3_RTS/EVENTOUT, 82 PD13/FSMC_A18/TIM4_CH2/EVENTOUT, 83 VSS, 84 VDD, 85 PD14/FSMC_D0/TIM4_CH3/EVENTOUT, 86 PD15/FSMC_D1/TIM4_CH4/EVENTOUT, 87 PG2/FSMC_A12/EVENTOUT, 88 PG3/FSMC_A13/EVENTOUT, 89 PG4/FSMC_A14/EVENTOUT, 90 PG5/FSMC_A15/EVENTOUT, 91 PG6/FSMC_INT2/EVENTOUT, 92 PG7/FSMC_INT3/USART6_CK/EVENTOUT, 93 PG8/USART6_RTS/ETH_PPS_OUT/EVENTOUT, 94 VSS, 95 VDD, 96 PC6/I2S2_MCK/TIM8_CH1/SDIO_D6/USART6_TX/DCMI_D0/TIM3_CH1/EVENTOUT, 97 PC7/I2S3_MCK/TIM8_CH2/SDIO_D7/USART6_RX/DCMI_D1/TIM3_CH2/EVENTOUT, 98 PC8/TIM8_CH3/SDIO_D0/TIM3_CH3/USART6_CK/DCMI_D2/EVENTOUT, 99 PC9/I2S_CKIN/MCO2/TIM8_CH4/SDIO_D1/I2C3_SDA/DCMI_D3/TIM3_CH4/EVNETOUT, 100 PA8/MCO1/USART1_CK/TIM1_CH1/I2C3_SCL/OTG_FS_SOF/EVENTOUT, 101 PA9/USART1_TX/TIM1_CH2/I2C3_SMBA/DCMI_D0/EVENTOUT/OTG_FS_VBUS, 102 PA10/USART1_RX/TIM1_CH3/OTG_FS_ID/DCMI_D1/EVENTOUT, 103 PA11/USART1_CTS/CAN1_RX/TIM1_CH4/OTG_FS_DM/EVENTOUT, 104 PA12/USART1_RTS/CAN1_TX/TIM1_ETR/OTG_FS_DP/EVENTOUT, 105 PA13/JTMS/SWDIO/EVENTOUT, 106 Vcap_2, 107 VSS, 108 VDD, 109 PA14/JTCK/SWCLK/EVENTOUT, 110 PA15/JTDI/SPI3_NSS/I2S3_WS/TIM2_CH1_ETR/SPI1_NSS/EVENTOUT, 111 PC10/SPI3_SCK/I2S3_CK/USART4_TX/SDIO_D2/DCMI_D8/USART3_TX/EVENTOUT, 112 PC11/USART4_RX/SPI3_MISO/SDIO_D3/DCMI_D4/USART3_RX/I2S3ext_SD/EVENTOUT, 113 PC12/UART5_TX/SDIO_CK/DCMI_D9/SPI3_MOSI/I2S3_SD/USART3_CK/EVENTOUT, 114 PD0/FSMC_D2/CAN1_RX/EVENTOUT, 115 PD1/FSMC_D3/CAN1_TX/EVENTOUT, 116 PD2/TIM3_ETR/UART5_RX/SDIO_CMD/DCMI_D11/EVENTOUT, 117 PD3/FSMC_CLK/USART2_CTS/EVENTOUT, 118 PD4/FSMC_NOE/USART2_RTS/EVENTOUT, 119 PD5/FSMC_NWE/USART2_TX/EVENTOUT, 120 VSS, 121 VDD, 122 PD6/FSMC_NWAIT/USART2_RX/EVENTOUT, 123 PD7/USART2_CK/FSMC_NE1/FSMC_NCE2/EVENTOUT, 124 PG9/USART6_RX/FSMC_NE2/FSMC_NCE3/EVENTOUT, 125 PG10/FSMC_NCE4_1/FSMC_NE3/EVENTOUT, 126 PG11/FSMC_CNE4_2/ETH_MII_TX_EN/ETH_RMII_TX_EN/EVENTOUT, 127 PG12FSMC_NE4/USART6_RTS/EVENTOUT, 128 PG13/FSMC_A24/USART6_CTS/ETH_MII_TXD0/ETH_RMII_TXD0/EVENTOUT, 129 PG14/FSMC_A25/USART6_TX/ETH_MII_TXD1/ETH_RMII_TXD1/EVENTOUT, 130 VSS, 131 VDD, 132 PG15/USART6_CTS/DCMI_D13/EVENTOUT, 133 PB3/JTDO/TRACESWO/SPI3_SCK/I2S3_CK/TIM2_CH2/SPI1_SCK/EVENTOUT, 134 PB4/NJTRST/SPI3_MISO/TIM3_CH1/SPI1_MISO/I2S3ext_SD/EVENTOUT, 135 PB5/I2C1_SMBA/CAN2_RX/OTG_HS_ULPI_D7/ETH_PPS_OUT/TIM3_CH2/SPI1_MOSI/SPI3_MOSI/DCMI_D10/I2S3_SD/EVENTOUT, 136 PB6/I2C1_SCL/TIM4_CH1/CAN2_TX/DCMI_D5/USART1_TX/EVENTOUT, 137 PB7/I2C1_SDA/FSMC_NL/DCMI_VSYNC/USART1_RX/TIM4_CH2/EVENTOUT, 138 BOOT0, 139 PB8/TIM4_CH3/SDIO_D4/TIM10_CH1/DCMI_D6/ETH_MII_TXD3/I2C1_SCL/CAN1_RX/EVENTOUT, 140 PB9/SPI2_NSS/I2S2_WS/TIM4_CH4/TIM11_CH1/SDIO_D5/DCMI_D7/I2C1_SDA/CAN1_TX/EVENTOUT, 141 PE0/TIM4_ETR/FSMC_NBL0/DCMI_D2/EVENTOUT, 142 PE1/FSMC_NBL1/DCMI_D3/EVENTOUT, 143 VSS, 144 VDD

## CHP_VP230_P
designator U?
贴片 VP230芯片 8P
footprint CHP_VP230_P
pins: 1 TXD, 2 GND, 3 VCC, 4 RXD, 5 SPLIT, 6 CANL, 7 CANH, 8 STB

## CHP_XL6009
designator *
贴片 XL6009芯片 5P
footprint CHP_TO263_5P
pins: 1 GND, 2 EN, 3 SW, 4 VIN, 5 FB, 6 SW

## ELE_8P4R_0603
designator R?
贴片 排阻 0603 8P
footprint ELE_0606_排阻_P_8P
pins: 1, 2, 3, 4, 5, 6, 7, 8

## ELE_BATTERY
designator BAT?
贴片 纽扣电池
pins: 1, 2

## ELE_Cap
designator C?
贴片 电容 0603
footprint ELE_0805_P
footprint ELE_0603_P
pins: 1, 2

## ELE_Cap_Pole
designator C?
贴片 极性电容 0603
footprint ELE_0603极性_P
pins: 1, 2

## ELE_Diode
designator D?, comment SS34/SS54
贴片 二极管 1206
footprint ELE_D1206
pins: 1, 2

## ELE_Inductance_0630
designator L?
功率电感 0630型封装
footprint ELE_Inductance_0630
pins: 1, 2

## ELE_Inductance_1045
designator L?
功率电感 1045型封装
footprint ELE_Inductance_10XX
pins: 1, 2

## ELE_KEY_1
designator K?
贴片 触发开关 2P
footprint ELE_KEY_P
pins: 1, 2

## ELE_LED
designator LED?
发光二极管 0603; Published: 8-Jun-2000; LatestRevisionDate: 17-Jul-2002; LatestRevisionNote: Re-released for DXP Platform.; PackageDocument: Feb-2002; PackageReference: 3.2X1.6X1.1; Publisher: Altium Limited
footprint ELE_0603极性_P
pins: 1, 2

## ELE_LED_DV_3mm
designator LED?
发光二极管 直插 3mm; Published: 8-Jun-2000; LatestRevisionDate: 17-Jul-2002; LatestRevisionNote: Re-released for DXP Platform.; PackageDocument: Feb-2002; PackageReference: 3.2X1.6X1.1; Publisher: Altium Limited
footprint ELE_LED_DV (Connector; Header; 2 Position)
pins: 1, 2

## ELE_MSK-12C01-07开关
designator K?
直插 SS12D005G3开关 34孔
footprint ELE_MSK-12C01-07开关_DH_7P
pins: 0 Base, 1, 2

## ELE_NMOS_1
designator NMOS?, comment AO3400
贴片 NMOS管 SOT23; Note: Pin 2 is electrically connected to pin 4.; Published: 8-Jun-2000; LatestRevisionDate: 17-Jul-2002; LatestRevisionNote: Re-released for DXP Platform.; DatasheetDocument: PD-9.814; PackageReference: TO-220AB; Publisher: Altium Limited; Code_JEDEC: TO-220-AB; ComponentLink1Description: Manufacturer Link; ComponentLink1URL: http://www.irf.com/
footprint CHP_SOT23_P_3P
pins: 1 G, 2 S, 3 D

## ELE_NMOS_2
designator NMOS?, comment IRLR4843
贴片 NMOS管 TO-252; Note: Pin 2 is electrically connected to pin 4.; Published: 8-Jun-2000; LatestRevisionDate: 17-Jul-2002; LatestRevisionNote: Re-released for DXP Platform.; DatasheetDocument: PD-9.814; PackageReference: TO-220AB; Publisher: Altium Limited; Code_JEDEC: TO-220-AB; ComponentLink1Description: Manufacturer Link; ComponentLink1URL: http://www.irf.com/
footprint CHP_TOD252
pins: 1 G, 2 S, 3 D

## ELE_NPN
designator NPN?
贴片 NPN三极管 SOT23
footprint CHP_SOT23_P_3P
pins: 1 E, 2 B, 3 C

## ELE_PMOS_1
designator PMOS?, comment AO3401
贴片 PMOS管 SOT23; Note: Pin 2 is electrically connected to pin 4.; Published: 8-Jun-2000; LatestRevisionDate: 17-Jul-2002; LatestRevisionNote: Re-released for DXP Platform.; DatasheetDocument: PD-9.814; PackageReference: TO-220AB; Publisher: Altium Limited; Code_JEDEC: TO-220-AB; ComponentLink1Description: Manufacturer Link; ComponentLink1URL: http://www.irf.com/
footprint CHP_SOT23_P_3P
pins: 1 G, 2 S, 3 D

## ELE_PNP
designator PNP?
贴片 PNP三极管 SOT23
footprint TO-92
pins: 1, 2, 3

## ELE_RES
designator R?
贴片 电阻
footprint ELE_0603_P
footprint ELE_0805_P
pins: 1, 2

## ELE_RES_BPR
designator BPR?
水泥电阻 5W
footprint ELE_SQH_BPR56
footprint ELE_0805_P
pins: 1, 2

## ELE_RES_HZR
designator HZR?
2512合金电阻 2W
footprint ELE_2512_P
footprint ELE_0805_P
pins: 1, 2

## ELE_SK12D07VG3开关
designator K?
直插 SK23D07VG3开关 5孔
footprint ELE_SK12D07VG3开关_D
pins: 1 K1, 2 K2, 3 K3, 4 Tick, 4 Tick

## ELE_Standard_Cap1uf
designator C?
贴片 电容1uf 0603
footprint ELE_0603_P
footprint ELE_0805_P
pins: 1, 2

## ELE_Standard_Cap10nf
designator C?
贴片 电容10nf 0603
footprint ELE_0603_P
footprint ELE_0805_P
pins: 1, 2

## ELE_Standard_Cap10uf
designator C?
贴片 电容10uf 0603
footprint ELE_0603_P
footprint ELE_0805_P
pins: 1, 2

## ELE_Standard_Cap22pf
designator C?
贴片 电容22pf 0603
footprint ELE_0603_P
footprint ELE_0805_P
pins: 1, 2

## ELE_Standard_Cap100nf
designator C?
贴片 电容100nf 0603
footprint ELE_0603_P
footprint ELE_0805_P
pins: 1, 2

## ELE_Standard_Cap100pf
designator C?
贴片 电容100pf 0603
footprint ELE_0603_P
footprint ELE_0805_P
pins: 1, 2

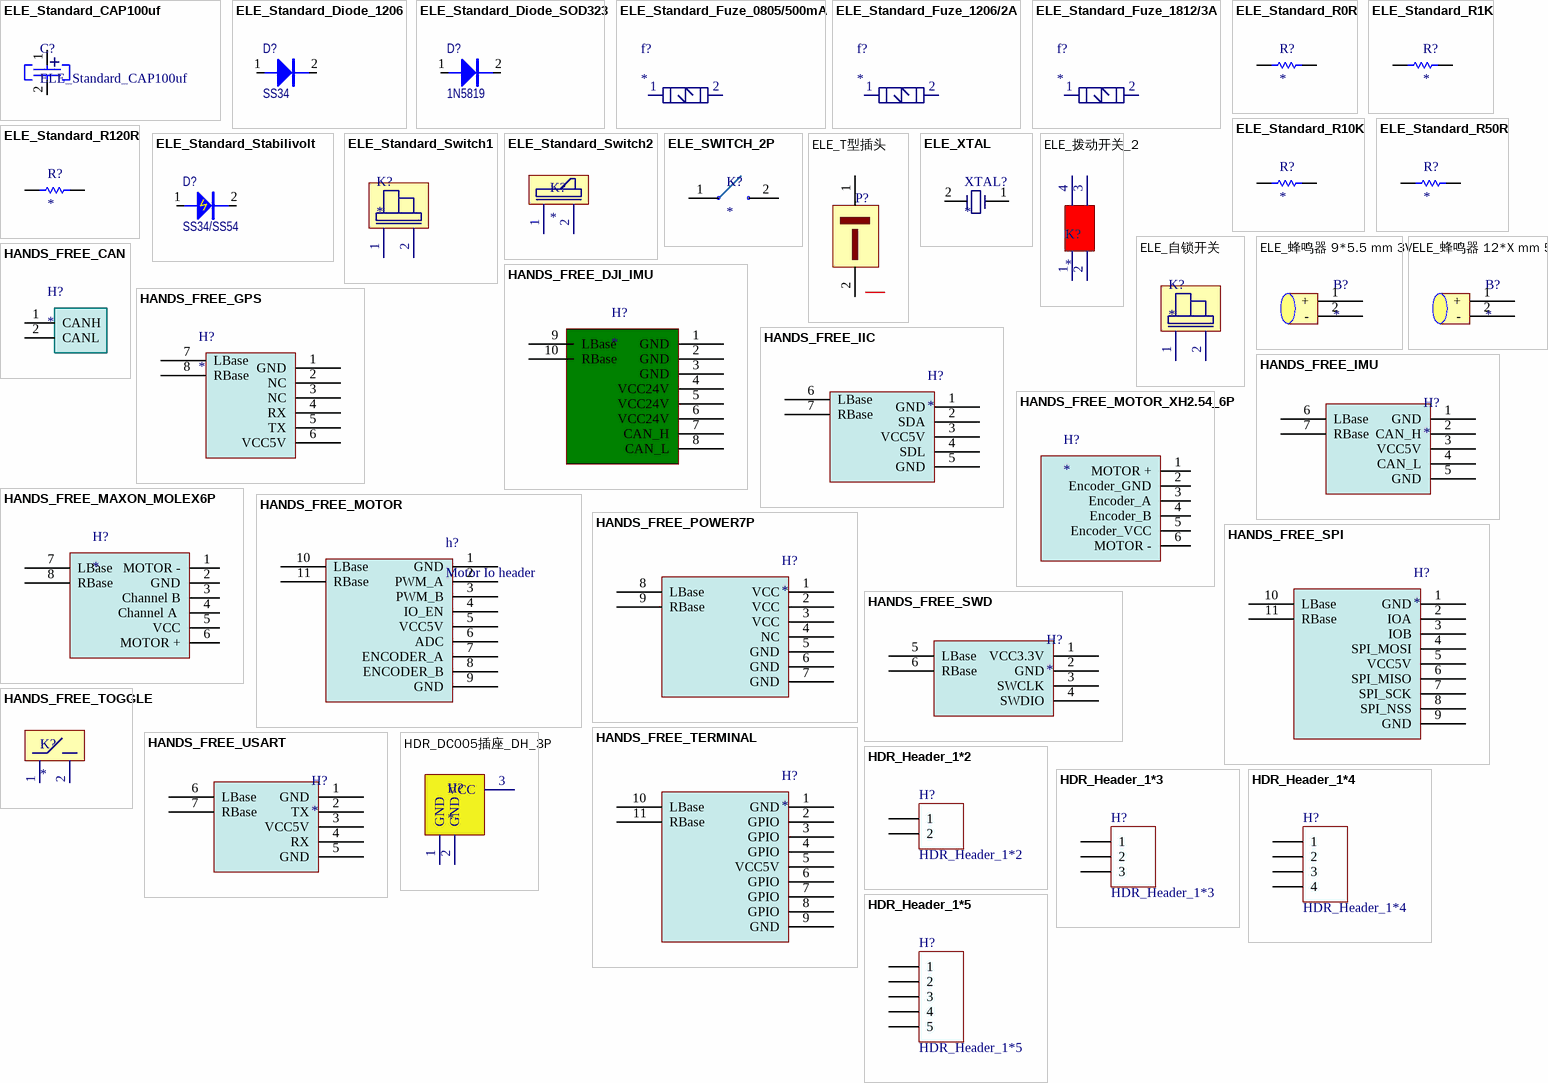
[diagram p4: symbols ELE_Standard_CAP100uf to HDR_Header_1*5]

## ELE_Standard_CAP100uf
designator C?
贴片 铝电解电容 6*7
footprint ELE_铝解电容_PV_6.3
pins: 1, 2

## ELE_Standard_Diode_1206
designator D?, comment SS34
贴片 二极管 SS34/SS54
footprint ELE_D1206
pins: 1, 2

## ELE_Standard_Diode_SOD323
designator D?, comment 1N5819
贴片 二极管 SOD323
footprint ELE_SOD-323
pins: 1, 2

## ELE_Standard_Fuze_0805/500mA
designator f?
贴片保险丝 0805 500mA
footprint ELE_FUZE_0805
pins: 1, 2

## ELE_Standard_Fuze_1206/2A
designator f?
贴片保险丝 1206 2A
footprint ELE_FUZE_1206
pins: 1, 2

## ELE_Standard_Fuze_1812/3A
designator f?
贴片保险丝 1812 3A
footprint ELE_FUZE_1812
pins: 1, 2

## ELE_Standard_R0R
designator R?
贴片 电阻0欧 0603
footprint ELE_0603_P
footprint ELE_0805_P
pins: 1, 2

## ELE_Standard_R1K
designator R?
贴片 电阻1K欧 0603
footprint ELE_0603_P
footprint ELE_0805_P
pins: 1, 2

## ELE_Standard_R10K
designator R?
贴片 电阻10K欧 0603
footprint ELE_0603_P
footprint ELE_0805_P
pins: 1, 2

## ELE_Standard_R50R
designator R?
贴片 电阻50欧 0603
footprint ELE_0603_P
footprint ELE_0805_P
pins: 1, 2

## ELE_Standard_R120R
designator R?
贴片 电阻120欧 0603
footprint ELE_0603_P
footprint ELE_0805_P
pins: 1, 2

## ELE_Standard_Stabilivolt
designator D?, comment SS34/SS54
贴片 稳压管 1206
footprint ELE_D1206 [2]
pins: 1, 2

## ELE_Standard_Switch1
designator K?
直插 自锁开关 6脚 7*7mm
footprint ELE_自锁开关_DV_7*7
pins: 1, 2

## ELE_Standard_Switch2
designator K?
直插 船型开关 2脚 8.5*13.5mm
footprint ELE_船型开关1_D
pins: 1, 2

## ELE_SWITCH_2P
designator K?
直插 船型开关 8.5*13.5mm
footprint ELE_船型开关1_D
pins: 1, 2

## ELE_T型插头
designator P?  (value not drawn)
直插 T型头
footprint ELE_T型插头_DV
pins: 1, 2

## ELE_XTAL
designator XTAL?
贴片 晶振 5*3.2
footprint ELE_XTAL_DH (32767)
footprint ELE_XTAL_P_5*3.2
footprint ELE_XTAL_P_5023
footprint ELE_XTAL_PH_1
footprint ELE_XTAL_PH
pins: 1, 2

## ELE_拨动开关_2
designator K?
直插 拨动开关 2位
footprint ELE_拨动开关_DV_2P
pins: 1, 2, 3, 4

## ELE_自锁开关
designator K?
直插 自锁开关 6脚 7*7mm
footprint ELE_自锁开关_DV_7*7
pins: 1, 2

## ELE_蜂鸣器 9*5.5 mm 3V
designator B?
直插 蜂鸣器 9mm
footprint ELE_蜂鸣器_D_9*5.5
pins: 1 +, 2 -

## ELE_蜂鸣器 12*X mm 5V
designator B?
直插 蜂鸣器 12mm
footprint ELE_蜂鸣器_D_12*X
pins: 1 +, 2 -

## HANDS_FREE_CAN
designator H?
直插 MX3.0间距连接器
footprint HDR_MOLEX_CANMX3.0_DH_2P
pins: 1 CANH, 2 CANL

## HANDS_FREE_DJI_IMU
designator H?
卧贴 molex 1.25间距 8P接口
footprint HDR_Molex_PH_1.25_8P
pins: 1 GND, 2 GND, 3 GND, 4 VCC24V, 5 VCC24V, 6 VCC24V, 7 CAN_H, 8 CAN_L, 9 LBase, 10 RBase

## HANDS_FREE_GPS
designator H?
卧贴 molex 1.25间距 6P接口
footprint HDR_Molex_PH_1.25_6P
pins: 1 GND, 2 NC, 3 NC, 4 RX, 5 TX, 6 VCC5V, 7 LBase, 8 RBase

## HANDS_FREE_IIC
designator H?
卧贴 molex 1.25间距 5P接口
footprint HDR_Molex_PH_1.25_5P
pins: 1 GND, 2 SDA, 3 VCC5V, 4 SDL, 5 GND, 6 LBase, 7 RBase

## HANDS_FREE_IMU
designator H?
卧贴 molex 1.25间距 5P接口
footprint HDR_Molex_PH_1.25_5P
pins: 1 GND, 2 CAN_H, 3 VCC5V, 4 CAN_L, 5 GND, 6 LBase, 7 RBase

## HANDS_FREE_MAXON_MOLEX6P
designator H?
卧贴 molex 1.25间距 6P接口
footprint HDR_Molex_PH_1.25_6P
pins: 1 MOTOR -, 2 GND, 3 Channel B, 4 Channel A , 5 VCC, 6 MOTOR +, 7 LBase, 8 RBase

## HANDS_FREE_MOTOR
designator h?, comment Motor Io header
卧贴 molex 1.25间距 9P接口
footprint HDR_Molex_PH_1.25_9P
pins: 1 GND, 2 PWM_A, 3 PWM_B, 4 IO_EN, 5 VCC5V, 6 ADC, 7 ENCODER_A, 8 ENCODER_B, 9 GND, 10 LBase, 11 RBase

## HANDS_FREE_MOTOR_XH2.54_6P
designator H?
直插 XH2.54 卧贴 6P
footprint HDR_Header_XH2.54_DH_1*6 (Connector; Header; 2 Position; Right Angle)
pins: 1 MOTOR +, 2 Encoder_GND, 3 Encoder_A, 4 Encoder_B, 5 Encoder_VCC, 6 MOTOR -

## HANDS_FREE_POWER7P
designator H?
卧贴 molex 1.25间距 7P接口
footprint HDR_Molex_PH_1.25_7P
pins: 1 VCC, 2 VCC, 3 VCC, 4 NC, 5 GND, 6 GND, 7 GND, 8 LBase, 9 RBase

## HANDS_FREE_SPI
designator H?
卧贴 molex 1.25间距 9P接口
footprint HDR_Molex_PH_1.25_9P
pins: 1 GND, 2 IOA, 3 IOB, 4 SPI_MOSI, 5 VCC5V, 6 SPI_MISO, 7 SPI_SCK, 8 SPI_NSS, 9 GND, 10 LBase, 11 RBase

## HANDS_FREE_SWD
designator H?
卧贴 molex 1.25间距 4P接口
footprint HDR_Molex_PH_1.25_4P
pins: 1 VCC3.3V, 2 GND, 3 SWCLK, 4 SWDIO, 5 LBase, 6 RBase

## HANDS_FREE_TERMINAL
designator H?
卧贴 molex 1.25间距 9P接口
footprint HDR_Molex_PH_1.25_9P
pins: 1 GND, 2 GPIO, 3 GPIO, 4 GPIO, 5 VCC5V, 6 GPIO, 7 GPIO, 8 GPIO, 9 GND, 10 LBase, 11 RBase

## HANDS_FREE_TOGGLE
designator K?
直插 ELE_MSK12D19开关_DH开关
footprint ELE_SS12D00G3_SWITCH_DV (Connector; Header; 3 Position; Right Angle)
pins: 1, 2

## HANDS_FREE_USART
designator H?
卧贴 molex 1.25间距 5P接口
footprint HDR_Molex_PH_1.25_5P
pins: 1 GND, 2 TX, 3 VCC5V, 4 RX, 5 GND, 6 LBase, 7 RBase

## HDR_DC005插座_DH_3P
designator H?
直插 DC5.0接头
footprint ELE_DC005插座_DV
pins: 1 GND, 2 GND, 3 VCC

## HDR_Header_1*2
designator H?
LatestRevisionDate: 17-Jul-2002; LatestRevisionNote: Re-released for DXP Platform.; Publisher: Altium Limited
footprint HDR_Header_2.54_DV_1*2 (Connector; Header; 2 Position)
pins: 1, 2

## HDR_Header_1*3
designator H?
LatestRevisionDate: 17-Jul-2002; LatestRevisionNote: Re-released for DXP Platform.; Publisher: Altium Limited
footprint HDR_Header_2.54_DV_1*3 (Connector; Header; 3 Position)
footprint HDR_Molex_PH_1.25_3P
pins: 1, 2, 3

## HDR_Header_1*4
designator H?
LatestRevisionDate: 17-Jul-2002; LatestRevisionNote: Re-released for DXP Platform.; Publisher: Altium Limited
footprint HDR_Header_2.54_DV_1*4 (Connector; Header; 4 Position)
footprint HDR_Molex_PH_1.25_4P
pins: 1, 2, 3, 4

## HDR_Header_1*5
designator H?
LatestRevisionDate: 17-Jul-2002; LatestRevisionNote: Re-released for DXP Platform.; Publisher: Altium Limited
footprint HDR_Header_2.54_DV_1*5 (Connector; Header; 5 Position)
footprint HDR_Molex_PH_1.25_5P
pins: 1, 2, 3, 4, 5

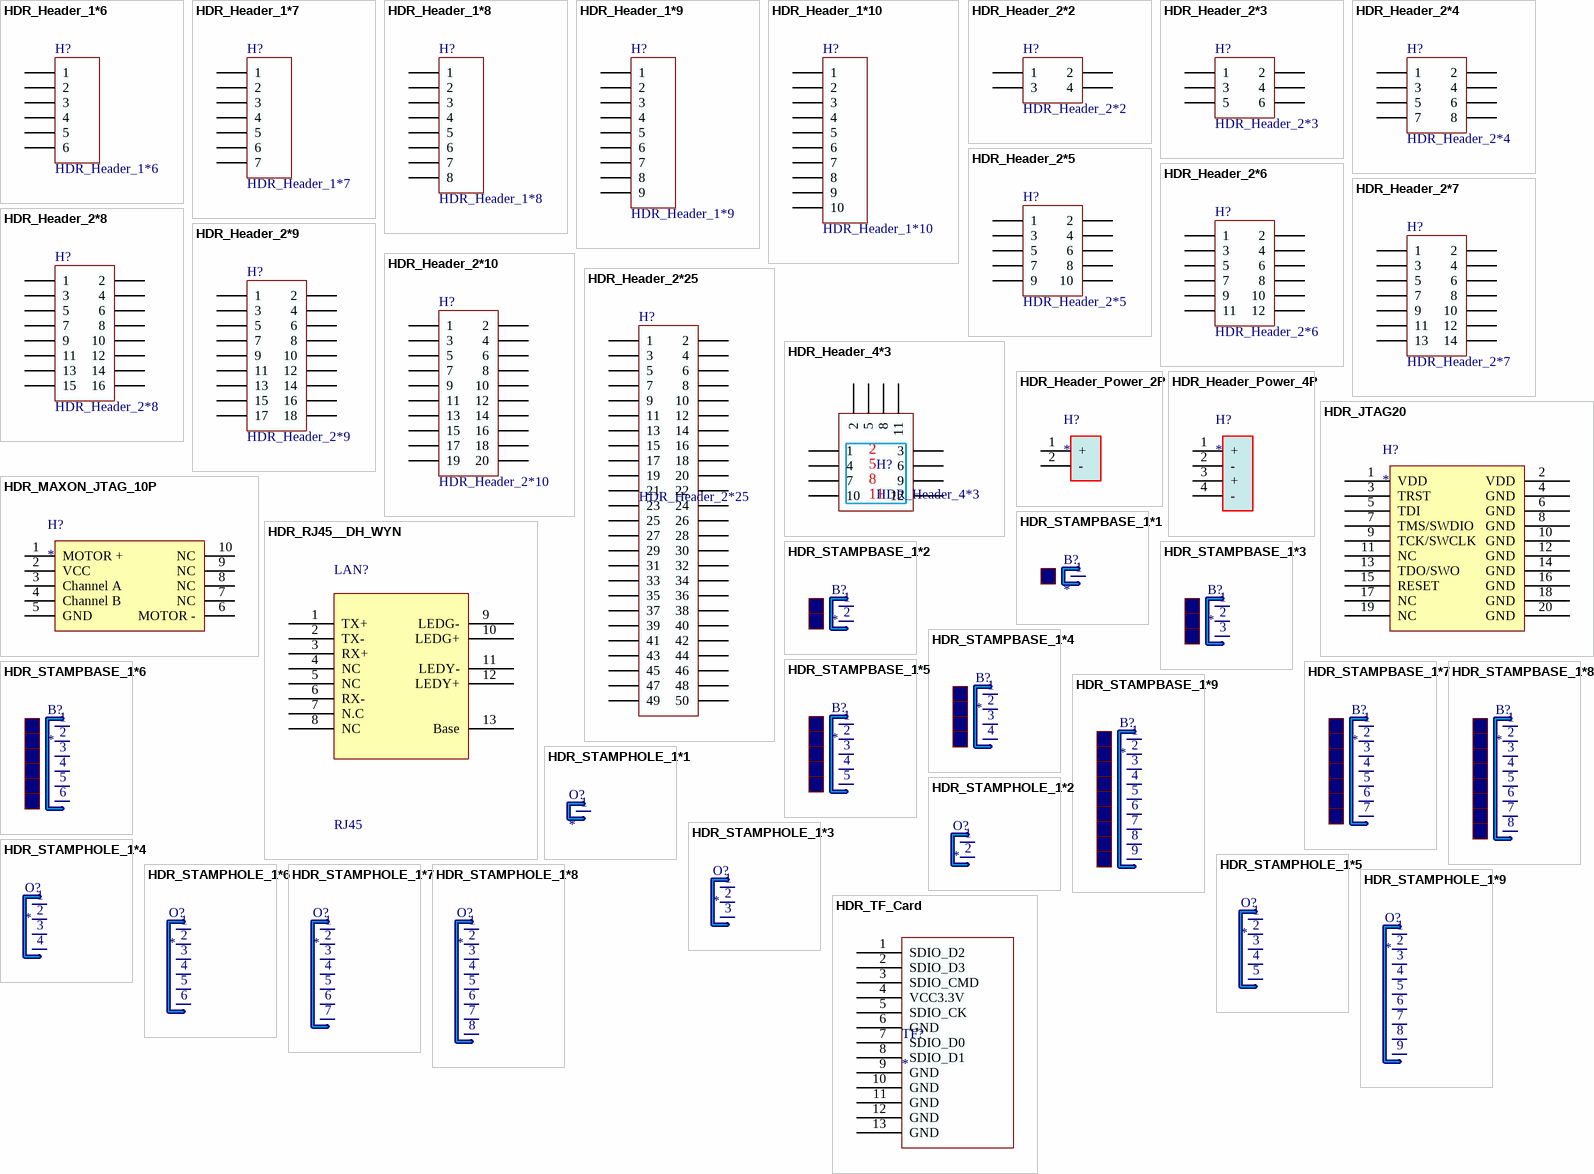
[diagram p5: symbols HDR_Header_1*6 to HDR_TF_Card]

## HDR_Header_1*6
designator H?
LatestRevisionDate: 17-Jul-2002; LatestRevisionNote: Re-released for DXP Platform.; Publisher: Altium Limited
footprint HDR_Header_2.54_DV_1*6 (Connector; Header; 6 Position)
footprint HDR_Molex_PH_1.25_6P
pins: 1, 2, 3, 4, 5, 6

## HDR_Header_1*7
designator H?
LatestRevisionDate: 17-Jul-2002; LatestRevisionNote: Re-released for DXP Platform.; Publisher: Altium Limited
footprint HDR_Header_2.54_DV_1*7 (Connector; Header; 7 Position)
footprint HDR_Molex_PH_1.25_7P
pins: 1, 2, 3, 4, 5, 6, 7

## HDR_Header_1*8
designator H?
LatestRevisionDate: 17-Jul-2002; LatestRevisionNote: Re-released for DXP Platform.; Publisher: Altium Limited
footprint HDR_Header_2.54_DV_1*8 (Connector; Header; 8 Position)
footprint HDR_Molex_PH_1.25_8P
pins: 1, 2, 3, 4, 5, 6, 7, 8

## HDR_Header_1*9
designator H?
LatestRevisionDate: 17-Jul-2002; LatestRevisionNote: Re-released for DXP Platform.; Publisher: Altium Limited
footprint HDR_Header_2.54_DV_1*9 (Connector; Header; 9 Position)
footprint HDR_Molex_PH_1.25_9P
pins: 1, 2, 3, 4, 5, 6, 7, 8, 9

## HDR_Header_1*10
designator H?
LatestRevisionDate: 17-Jul-2002; LatestRevisionNote: Re-released for DXP Platform.; Publisher: Altium Limited
footprint HDR_Header_2.54_DV_1*10 (Connector; Header; 10 Position)
footprint HDR_Molex_PH_1.25_10P
pins: 1, 2, 3, 4, 5, 6, 7, 8, 9, 10

## HDR_Header_2*2
designator H?
LatestRevisionDate: 17-Jul-2002; LatestRevisionNote: Re-released for DXP Platform.; Publisher: Altium Limited
footprint HDR_Header_2.54_DH_2*2 (Connector; Header; 2x2 Position; Right Angle)
pins: 1, 2, 3, 4

## HDR_Header_2*3
designator H?
LatestRevisionDate: 17-Jul-2002; LatestRevisionNote: Re-released for DXP Platform.; Publisher: Altium Limited
footprint HDR_Header_2.54_DH_2*3 (Connector; Header; 3x2 Position; Right Angle)
pins: 1, 2, 3, 4, 5, 6

## HDR_Header_2*4
designator H?
LatestRevisionDate: 17-Jul-2002; LatestRevisionNote: Re-released for DXP Platform.; Publisher: Altium Limited
footprint HDR_Header_2.54_DH_2*4 (Connector; Header; 4x2 Position; Right Angle)
pins: 1, 2, 3, 4, 5, 6, 7, 8

## HDR_Header_2*5
designator H?
LatestRevisionDate: 17-Jul-2002; LatestRevisionNote: Re-released for DXP Platform.; Publisher: Altium Limited
footprint HDR_Header_2.54_DH_2*5 (Connector; Header; 5x2 Position; Right Angle)
pins: 1, 2, 3, 4, 5, 6, 7, 8, 9, 10

## HDR_Header_2*6
designator H?
LatestRevisionDate: 17-Jul-2002; LatestRevisionNote: Re-released for DXP Platform.; Publisher: Altium Limited
footprint HDR_Header_2.54_DH_2*6 (Connector; Header; 6x2 Position; Right Angle)
pins: 1, 2, 3, 4, 5, 6, 7, 8, 9, 10, 11, 12

## HDR_Header_2*7
designator H?
LatestRevisionDate: 17-Jul-2002; LatestRevisionNote: Re-released for DXP Platform.; Publisher: Altium Limited
footprint HDR_Header_2.00_DV_2*7
pins: 1, 2, 3, 4, 5, 6, 7, 8, 9, 10, 11, 12, 13, 14

## HDR_Header_2*8
designator H?
LatestRevisionDate: 17-Jul-2002; LatestRevisionNote: Re-released for DXP Platform.; Publisher: Altium Limited
footprint HDR_Header_2.00_DV_2*8
pins: 1, 2, 3, 4, 5, 6, 7, 8, 9, 10, 11, 12, 13, 14, 15, 16

## HDR_Header_2*9
designator H?
LatestRevisionDate: 17-Jul-2002; LatestRevisionNote: Re-released for DXP Platform.; Publisher: Altium Limited
footprint HDR_Header_2.54_DH_2*9 (Connector; Header; 9x2 Position; Right Angle)
pins: 1, 2, 3, 4, 5, 6, 7, 8, 9, 10, 11, 12, 13, 14, 15, 16, 17, 18

## HDR_Header_2*10
designator H?
LatestRevisionDate: 17-Jul-2002; LatestRevisionNote: Re-released for DXP Platform.; Publisher: Altium Limited
footprint HDR_Header_2.54_DH_2*10 (Connector; Header; 10x2 Position; Right Angle)
pins: 1, 2, 3, 4, 5, 6, 7, 8, 9, 10, 11, 12, 13, 14, 15, 16, 17, 18, 19, 20

## HDR_Header_2*25
designator H?
LatestRevisionDate: 17-Jul-2002; LatestRevisionNote: Re-released for DXP Platform.; Publisher: Altium Limited
footprint HDR_Header_2.54_DH_2*10 (Connector; Header; 10x2 Position; Right Angle)
pins: 1, 2, 3, 4, 5, 6, 7, 8, 9, 10, 11, 12, 13, 14, 15, 16, 17, 18, 19, 20, 21, 22, 23, 24, 25, 26, 27, 28, 29, 30, 31, 32, 33, 34, 35, 36, 37, 38, 39, 40, 41, 42, 43, 44, 45, 46, 47, 48, 49, 50

## HDR_Header_4*3
designator H?
直插 三排排针
footprint HDR_Header_2.54/3.0_DV_3*4 (Connector; Header; 10x2 Position)
pins: 1, 2, 3, 4, 5, 6, 7, 8, 9, 10, 11, 12

## HDR_Header_Power_2P
designator H?
直插 5557接头 1*2P
footprint HDR_MOLEX_POWER5557_DH_1*2P [2]
pins: 1 +, 2 -

## HDR_Header_Power_4P
designator H?
直插 5557接头 2*2P
footprint HDR_MOLEX_POWER5557_DH_4P
pins: 1 +, 2 -, 3 +, 4 -

## HDR_JTAG20
designator H?
直插 JTAG 20P
footprint JTAG_20
pins: 1 VDD, 2 VDD, 3 TRST, 4 GND, 5 TDI, 6 GND, 7 TMS/SWDIO, 8 GND, 9 TCK/SWCLK, 10 GND, 11 NC, 12 GND, 13 TDO/SWO, 14 GND, 15 RESET, 16 GND, 17 NC, 18 GND, 19 NC, 20 GND

## HDR_MAXON_JTAG_10P
designator H?
直插 JTAG 10P
footprint HDR_JTAG_DV_10P
pins: 1 MOTOR +, 2 VCC, 3 Channel A , 4 Channel B, 5 GND, 6 MOTOR -, 7 NC, 8 NC, 9 NC, 10 NC

## HDR_RJ45__DH_WYN
designator LAN?, comment RJ45
直插RJ带灯 网口接头; Text Field1: 90; Text Field2: 140
footprint HDR_RJ45_WYN
pins: 1 TX+, 2 TX-, 3 RX+, 4 NC, 5 NC, 6 RX-, 7 N.C, 8 NC, 9 LEDG-, 10 LEDG+, 11 LEDY-, 12 LEDY+, 13 Base

## HDR_STAMPBASE_1*1
designator B?
贴片 邮票孔对应焊盘 1P
footprint HDR_STAMPBASE_2.00_DH_1*1
pins: 1

## HDR_STAMPBASE_1*2
designator B?
贴片 邮票孔对应焊盘 2P
footprint HDR_STAMPBASE_2.00_DH_1*2
pins: 1, 2

## HDR_STAMPBASE_1*3
designator B?
贴片 邮票孔对应焊盘 3P
footprint HDR_STAMPBASE_2.00_DH_1*3
pins: 1, 2, 3

## HDR_STAMPBASE_1*4
designator B?
贴片 邮票孔对应焊盘 4P
footprint HDR_STAMPBASE_2.00_DH_1*4
pins: 1, 2, 3, 4

## HDR_STAMPBASE_1*5
designator B?
贴片 邮票孔对应焊盘 5P
footprint HDR_STAMPBASE_2.00_DH_1*5
pins: 1, 2, 3, 4, 5

## HDR_STAMPBASE_1*6
designator B?
贴片 邮票孔对应焊盘 6P
footprint HDR_STAMPBASE_2.00_DH_1*6
pins: 1, 2, 3, 4, 5, 6

## HDR_STAMPBASE_1*7
designator B?
贴片 邮票孔对应焊盘 7P
footprint HDR_STAMPBASE_2.00_DH_1*7
pins: 1, 2, 3, 4, 5, 6, 7

## HDR_STAMPBASE_1*8
designator B?
贴片 邮票孔对应焊盘 8P
footprint HDR_STAMPBASE_2.00_DH_1*8
pins: 1, 2, 3, 4, 5, 6, 7, 8

## HDR_STAMPBASE_1*9
designator B?
贴片 邮票孔对应焊盘 9P
footprint HDR_STAMPBASE_2.00_DH_1*9
pins: 1, 2, 3, 4, 5, 6, 7, 8, 9

## HDR_STAMPHOLE_1*1
designator O?
邮票孔 1P
footprint HDR_STAMPHOLE_2.00_DH_1*1
pins: 1

## HDR_STAMPHOLE_1*2
designator O?
邮票孔 2P
footprint HDR_STAMPHOLE_2.00_DH_1*2
pins: 1, 2

## HDR_STAMPHOLE_1*3
designator O?
邮票孔 3P
footprint HDR_STAMPHOLE_2.00_DH_1*3
pins: 1, 2, 3

## HDR_STAMPHOLE_1*4
designator O?
邮票孔 4P
footprint HDR_STAMPHOLE_2.00_DH_1*4
pins: 1, 2, 3, 4

## HDR_STAMPHOLE_1*5
designator O?
邮票孔 5P
footprint HDR_STAMPHOLE_2.00_DH_1*5
pins: 1, 2, 3, 4, 5

## HDR_STAMPHOLE_1*6
designator O?
邮票孔 6P
footprint HDR_STAMPHOLE_2.00_DH_1*6
pins: 1, 2, 3, 4, 5, 6

## HDR_STAMPHOLE_1*7
designator O?
邮票孔 7P
footprint HDR_STAMPHOLE_2.00_DH_1*7
pins: 1, 2, 3, 4, 5, 6, 7

## HDR_STAMPHOLE_1*8
designator O?
邮票孔 8P
footprint HDR_STAMPHOLE_2.00_DH_1*8
pins: 1, 2, 3, 4, 5, 6, 7, 8

## HDR_STAMPHOLE_1*9
designator O?
邮票孔 9P
footprint HDR_STAMPHOLE_2.00_DH_1*9
pins: 1, 2, 3, 4, 5, 6, 7, 8, 9

## HDR_TF_Card
designator TF?
贴片 microTF卡
footprint HDR_TFCARD_P
pins: 1 SDIO_D2, 2 SDIO_D3, 3 SDIO_CMD, 4 VCC3.3V, 5 SDIO_CK, 6 GND, 7 SDIO_D0, 8 SDIO_D1, 9 GND, 10 GND, 11 GND, 12 GND, 13 GND

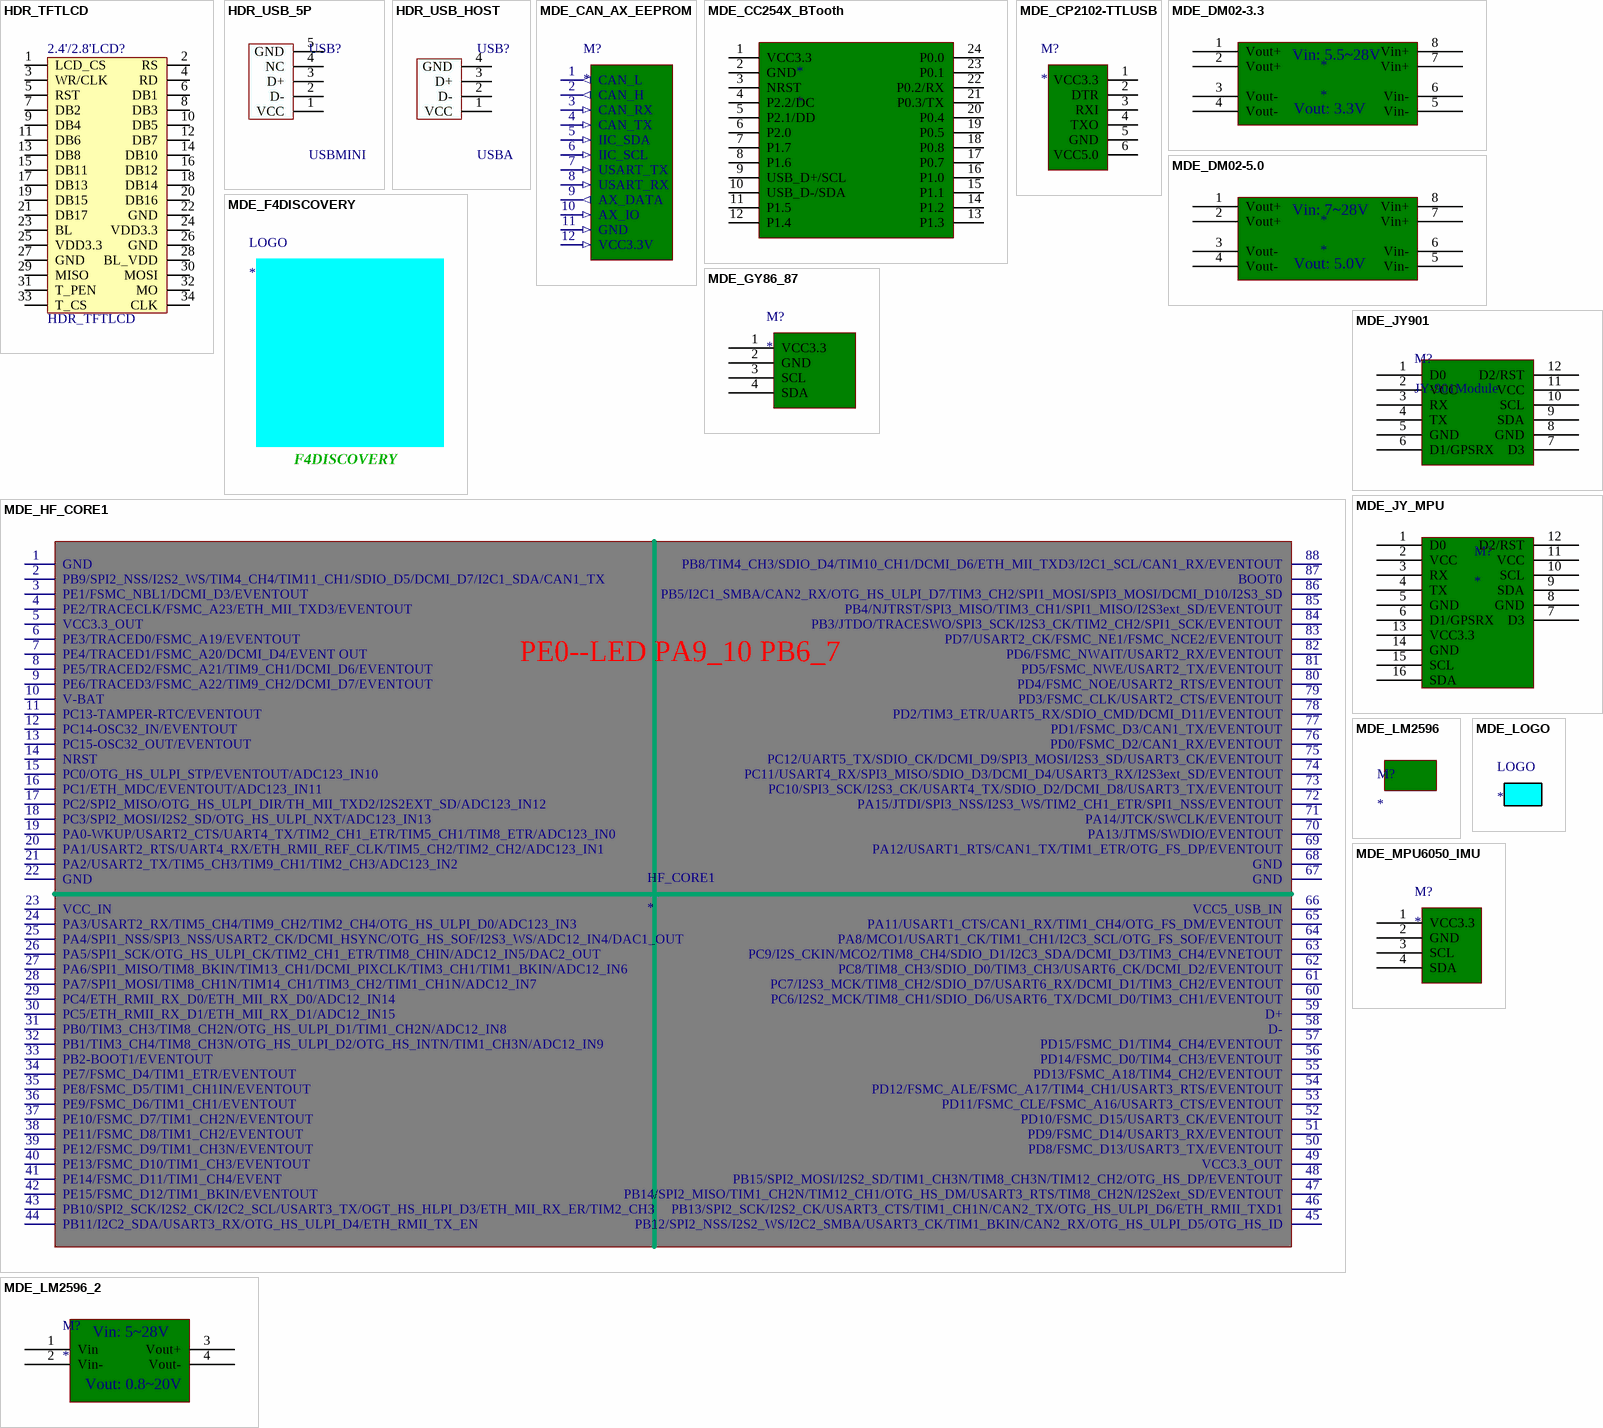
[diagram p6: symbols HDR_TFTLCD to MDE_MPU6050_IMU]

## HDR_TFTLCD
designator 2.4'/2.8'LCD?
液晶接口
pins: 1 LCD_CS, 2 RS, 3 WR/CLK, 4 RD, 5 RST, 6 DB1, 7 DB2, 8 DB3, 9 DB4, 10 DB5, 11 DB6, 12 DB7, 13 DB8, 14 DB10, 15 DB11, 16 DB12, 17 DB13, 18 DB14, 19 DB15, 20 DB16, 21 DB17, 22 GND, 23 BL, 24 VDD3.3, 25 VDD3.3, 26 GND, 27 GND, 28 BL_VDD, 29 MISO, 30 MOSI, 31 T_PEN, 32 MO, 33 T_CS, 34 CLK

## HDR_USB_5P
designator USB?, comment USBMINI
usb
footprint HDR_USBA_DH
footprint HDR_USBA_P
footprint HDR_USB_Micro
footprint HDR_USB_Mini
footprint HDR_USB_MINI_P
pins: 1 VCC, 2 D-, 3 D+, 4 NC, 5 GND

## HDR_USB_HOST
designator USB?, comment USBA
直插 USB头
footprint HDR_USBA_DH
pins: 1 VCC, 2 D-, 3 D+, 4 GND

## MDE_CAN_AX_EEPROM
designator M?
贴片型 CAN_AX_EEPROM模块
footprint MDE_CAN_AX_EEPROM
pins: 1 CAN_L (out), 2 CAN_H (out), 3 CAN_RX (in), 4 CAN_TX (in), 5 IIC_SDA (in), 6 IIC_SCL (in), 7 USART_TX (in), 8 USART_RX (in), 9 AX_DATA (out), 10 AX_IO (in), 11 GND (in), 12 VCC3.3V (in)

## MDE_CC254X_BTooth
designator *
footprint MDE_CC254X_BTooth
pins: 1 VCC3.3, 2 GND, 3 NRST, 4 P2.2/DC, 5 P2.1/DD, 6 P2.0, 7 P1.7, 8 P1.6, 9 USB_D+/SCL, 10 USB_D-/SDA, 11 P1.5, 12 P1.4, 13 P1.3, 14 P1.2, 15 P1.1, 16 P1.0, 17 P0.7, 18 P0.8, 19 P0.5, 20 P0.4, 21 P0.3/TX, 22 P0.2/RX, 23 P0.1, 24 P0.0

## MDE_CP2102-TTLUSB
designator M?
贴片型 CP2102模块
footprint MDE_CP2102-TTLUSB
footprint MDE_CP2102-TTLUSB_BASE
pins: 1 VCC3.3, 2 DTR, 3 RXI, 4 TXO, 5 GND, 6 VCC5.0

## MDE_DM02-3.3
designator *
footprint MDE_DM02-3.3 (U?)
pins: 1 Vout+, 2 Vout+, 3 Vout-, 4 Vout-, 5 Vin-, 6 Vin-, 7 Vin+, 8 Vin+
text: Vin: 5.5~28V; Vout: 3.3V

## MDE_DM02-5.0
designator *
footprint MDE_DM02-5.0 (U?)
pins: 1 Vout+, 2 Vout+, 3 Vout-, 4 Vout-, 5 Vin-, 6 Vin-, 7 Vin+, 8 Vin+
text: Vin: 7~28V; Vout: 5.0V

## MDE_F4DISCOVERY
designator LOGO
LOGO 不需要焊接
footprint MDE_F4Discovery
text: F4DISCOVERY

## MDE_GY86_87
designator M?
贴片型 GY86 87模块
footprint MDE_GY86_GY87
footprint MDE_GY86_GY87_BASE
pins: 1 VCC3.3, 2 GND, 3 SCL, 4 SDA

## MDE_HF_CORE1
designator HF_CORE1
HANDS FREE核心板1代
footprint MDE_HF_CORE1 (HANDS FREE核心板1代)
pins: 1 GND, 2 PB9/SPI2_NSS/I2S2_WS/TIM4_CH4/TIM11_CH1/SDIO_D5/DCMI_D7/I2C1_SDA/CAN1_TX, 3 PE1/FSMC_NBL1/DCMI_D3/EVENTOUT, 4 PE2/TRACECLK/FSMC_A23/ETH_MII_TXD3/EVENTOUT, 5 VCC3.3_OUT, 6 PE3/TRACED0/FSMC_A19/EVENTOUT, 7 PE4/TRACED1/FSMC_A20/DCMI_D4/EVENT OUT, 8 PE5/TRACED2/FSMC_A21/TIM9_CH1/DCMI_D6/EVENTOUT, 9 PE6/TRACED3/FSMC_A22/TIM9_CH2/DCMI_D7/EVENTOUT, 10 V-BAT, 11 PC13-TAMPER-RTC/EVENTOUT, 12 PC14-OSC32_IN/EVENTOUT, 13 PC15-OSC32_OUT/EVENTOUT, 14 NRST, 15 PC0/OTG_HS_ULPI_STP/EVENTOUT/ADC123_IN10, 16 PC1/ETH_MDC/EVENTOUT/ADC123_IN11, 17 PC2/SPI2_MISO/OTG_HS_ULPI_DIR/TH_MII_TXD2/I2S2EXT_SD/ADC123_IN12, 18 PC3/SPI2_MOSI/I2S2_SD/OTG_HS_ULPI_NXT/ADC123_IN13, 19 PA0-WKUP/USART2_CTS/UART4_TX/TIM2_CH1_ETR/TIM5_CH1/TIM8_ETR/ADC123_IN0, 20 PA1/USART2_RTS/UART4_RX/ETH_RMII_REF_CLK/TIM5_CH2/TIM2_CH2/ADC123_IN1, 21 PA2/USART2_TX/TIM5_CH3/TIM9_CH1/TIM2_CH3/ADC123_IN2, 22 GND, 23 VCC_IN, 24 PA3/USART2_RX/TIM5_CH4/TIM9_CH2/TIM2_CH4/OTG_HS_ULPI_D0/ADC123_IN3, 25 PA4/SPI1_NSS/SPI3_NSS/USART2_CK/DCMI_HSYNC/OTG_HS_SOF/I2S3_WS/ADC12_IN4/DAC1_OUT, 26 PA5/SPI1_SCK/OTG_HS_ULPI_CK/TIM2_CH1_ETR/TIM8_CHIN/ADC12_IN5/DAC2_OUT, 27 PA6/SPI1_MISO/TIM8_BKIN/TIM13_CH1/DCMI_PIXCLK/TIM3_CH1/TIM1_BKIN/ADC12_IN6, 28 PA7/SPI1_MOSI/TIM8_CH1N/TIM14_CH1/TIM3_CH2/TIM1_CH1N/ADC12_IN7, 29 PC4/ETH_RMII_RX_D0/ETH_MII_RX_D0/ADC12_IN14, 30 PC5/ETH_RMII_RX_D1/ETH_MII_RX_D1/ADC12_IN15, 31 PB0/TIM3_CH3/TIM8_CH2N/OTG_HS_ULPI_D1/TIM1_CH2N/ADC12_IN8, 32 PB1/TIM3_CH4/TIM8_CH3N/OTG_HS_ULPI_D2/OTG_HS_INTN/TIM1_CH3N/ADC12_IN9, 33 PB2-BOOT1/EVENTOUT, 34 PE7/FSMC_D4/TIM1_ETR/EVENTOUT, 35 PE8/FSMC_D5/TIM1_CH1IN/EVENTOUT, 36 PE9/FSMC_D6/TIM1_CH1/EVENTOUT, 37 PE10/FSMC_D7/TIM1_CH2N/EVENTOUT, 38 PE11/FSMC_D8/TIM1_CH2/EVENTOUT, 39 PE12/FSMC_D9/TIM1_CH3N/EVENTOUT, 40 PE13/FSMC_D10/TIM1_CH3/EVENTOUT, 41 PE14/FSMC_D11/TIM1_CH4/EVENT, 42 PE15/FSMC_D12/TIM1_BKIN/EVENTOUT, 43 PB10/SPI2_SCK/I2S2_CK/I2C2_SCL/USART3_TX/OGT_HS_HLPI_D3/ETH_MII_RX_ER/TIM2_CH3, 44 PB11/I2C2_SDA/USART3_RX/OTG_HS_ULPI_D4/ETH_RMII_TX_EN, 45 PB12/SPI2_NSS/I2S2_WS/I2C2_SMBA/USART3_CK/TIM1_BKIN/CAN2_RX/OTG_HS_ULPI_D5/OTG_HS_ID, 46 PB13/SPI2_SCK/I2S2_CK/USART3_CTS/TIM1_CH1N/CAN2_TX/OTG_HS_ULPI_D6/ETH_RMII_TXD1, 47 PB14/SPI2_MISO/TIM1_CH2N/TIM12_CH1/OTG_HS_DM/USART3_RTS/TIM8_CH2N/I2S2ext_SD/EVENTOUT, 48 PB15/SPI2_MOSI/I2S2_SD/TIM1_CH3N/TIM8_CH3N/TIM12_CH2/OTG_HS_DP/EVENTOUT, 49 VCC3.3_OUT, 50 PD8/FSMC_D13/USART3_TX/EVENTOUT, 51 PD9/FSMC_D14/USART3_RX/EVENTOUT, 52 PD10/FSMC_D15/USART3_CK/EVENTOUT, 53 PD11/FSMC_CLE/FSMC_A16/USART3_CTS/EVENTOUT, 54 PD12/FSMC_ALE/FSMC_A17/TIM4_CH1/USART3_RTS/EVENTOUT, 55 PD13/FSMC_A18/TIM4_CH2/EVENTOUT, 56 PD14/FSMC_D0/TIM4_CH3/EVENTOUT, 57 PD15/FSMC_D1/TIM4_CH4/EVENTOUT, 58 D-, 59 D+, 60 PC6/I2S2_MCK/TIM8_CH1/SDIO_D6/USART6_TX/DCMI_D0/TIM3_CH1/EVENTOUT, 61 PC7/I2S3_MCK/TIM8_CH2/SDIO_D7/USART6_RX/DCMI_D1/TIM3_CH2/EVENTOUT, 62 PC8/TIM8_CH3/SDIO_D0/TIM3_CH3/USART6_CK/DCMI_D2/EVENTOUT, 63 PC9/I2S_CKIN/MCO2/TIM8_CH4/SDIO_D1/I2C3_SDA/DCMI_D3/TIM3_CH4/EVNETOUT, 64 PA8/MCO1/USART1_CK/TIM1_CH1/I2C3_SCL/OTG_FS_SOF/EVENTOUT, 65 PA11/USART1_CTS/CAN1_RX/TIM1_CH4/OTG_FS_DM/EVENTOUT, 66 VCC5_USB_IN, 67 GND, 68 GND, 69 PA12/USART1_RTS/CAN1_TX/TIM1_ETR/OTG_FS_DP/EVENTOUT, 70 PA13/JTMS/SWDIO/EVENTOUT, 71 PA14/JTCK/SWCLK/EVENTOUT, 72 PA15/JTDI/SPI3_NSS/I2S3_WS/TIM2_CH1_ETR/SPI1_NSS/EVENTOUT, 73 PC10/SPI3_SCK/I2S3_CK/USART4_TX/SDIO_D2/DCMI_D8/USART3_TX/EVENTOUT, 74 PC11/USART4_RX/SPI3_MISO/SDIO_D3/DCMI_D4/USART3_RX/I2S3ext_SD/EVENTOUT, 75 PC12/UART5_TX/SDIO_CK/DCMI_D9/SPI3_MOSI/I2S3_SD/USART3_CK/EVENTOUT, 76 PD0/FSMC_D2/CAN1_RX/EVENTOUT, 77 PD1/FSMC_D3/CAN1_TX/EVENTOUT, 78 PD2/TIM3_ETR/UART5_RX/SDIO_CMD/DCMI_D11/EVENTOUT, 79 PD3/FSMC_CLK/USART2_CTS/EVENTOUT, 80 PD4/FSMC_NOE/USART2_RTS/EVENTOUT, 81 PD5/FSMC_NWE/USART2_TX/EVENTOUT, 82 PD6/FSMC_NWAIT/USART2_RX/EVENTOUT, 83 PD7/USART2_CK/FSMC_NE1/FSMC_NCE2/EVENTOUT, 84 PB3/JTDO/TRACESWO/SPI3_SCK/I2S3_CK/TIM2_CH2/SPI1_SCK/EVENTOUT, 85 PB4/NJTRST/SPI3_MISO/TIM3_CH1/SPI1_MISO/I2S3ext_SD/EVENTOUT, 86 PB5/I2C1_SMBA/CAN2_RX/OTG_HS_ULPI_D7/TIM3_CH2/SPI1_MOSI/SPI3_MOSI/DCMI_D10/I2S3_SD, 87 BOOT0, 88 PB8/TIM4_CH3/SDIO_D4/TIM10_CH1/DCMI_D6/ETH_MII_TXD3/I2C1_SCL/CAN1_RX/EVENTOUT
text: PE0--LED PA9_10 PB6_7

## MDE_JY901
designator M?, comment JY-901Module
贴片型 君悦智控高精度9轴传感器 GY901模块
footprint MDE_JY901
pins: 1 D0, 2 VCC, 3 RX, 4 TX, 5 GND, 6 D1/GPSRX, 7 D3, 8 GND, 9 SDA, 10 SCL, 11 VCC, 12 D2/RST

## MDE_JY_MPU
designator M?
贴片/直插型 IMU组合模块 ：无法用于量产
footprint MDE_JY_MPU
pins: 1 D0, 2 VCC, 3 RX, 4 TX, 5 GND, 6 D1/GPSRX, 7 D3, 8 GND, 9 SDA, 10 SCL, 11 VCC, 12 D2/RST, 13 VCC3.3, 14 GND, 15 SCL, 16 SDA

## MDE_LM2596
designator M?
特定稳压模块固定柱 不需要焊接
footprint MDE_LM2596模块_D

## MDE_LM2596_2
designator M?
直插型 稳压模块
footprint MDE_LM2596模块2_D
pins: 1 Vin, 2 Vin-, 3 Vout+, 4 Vout-
text: Vin: 5~28V; Vout: 0.8~20V

## MDE_LOGO
designator LOGO
LOGO 不需要焊接
footprint MDE_LOGO

## MDE_MPU6050_IMU
designator M?
贴片型 MPU6050模块
footprint MDE_MPU6050_BASE
footprint MDE_MPU6050
pins: 1 VCC3.3, 2 GND, 3 SCL, 4 SDA

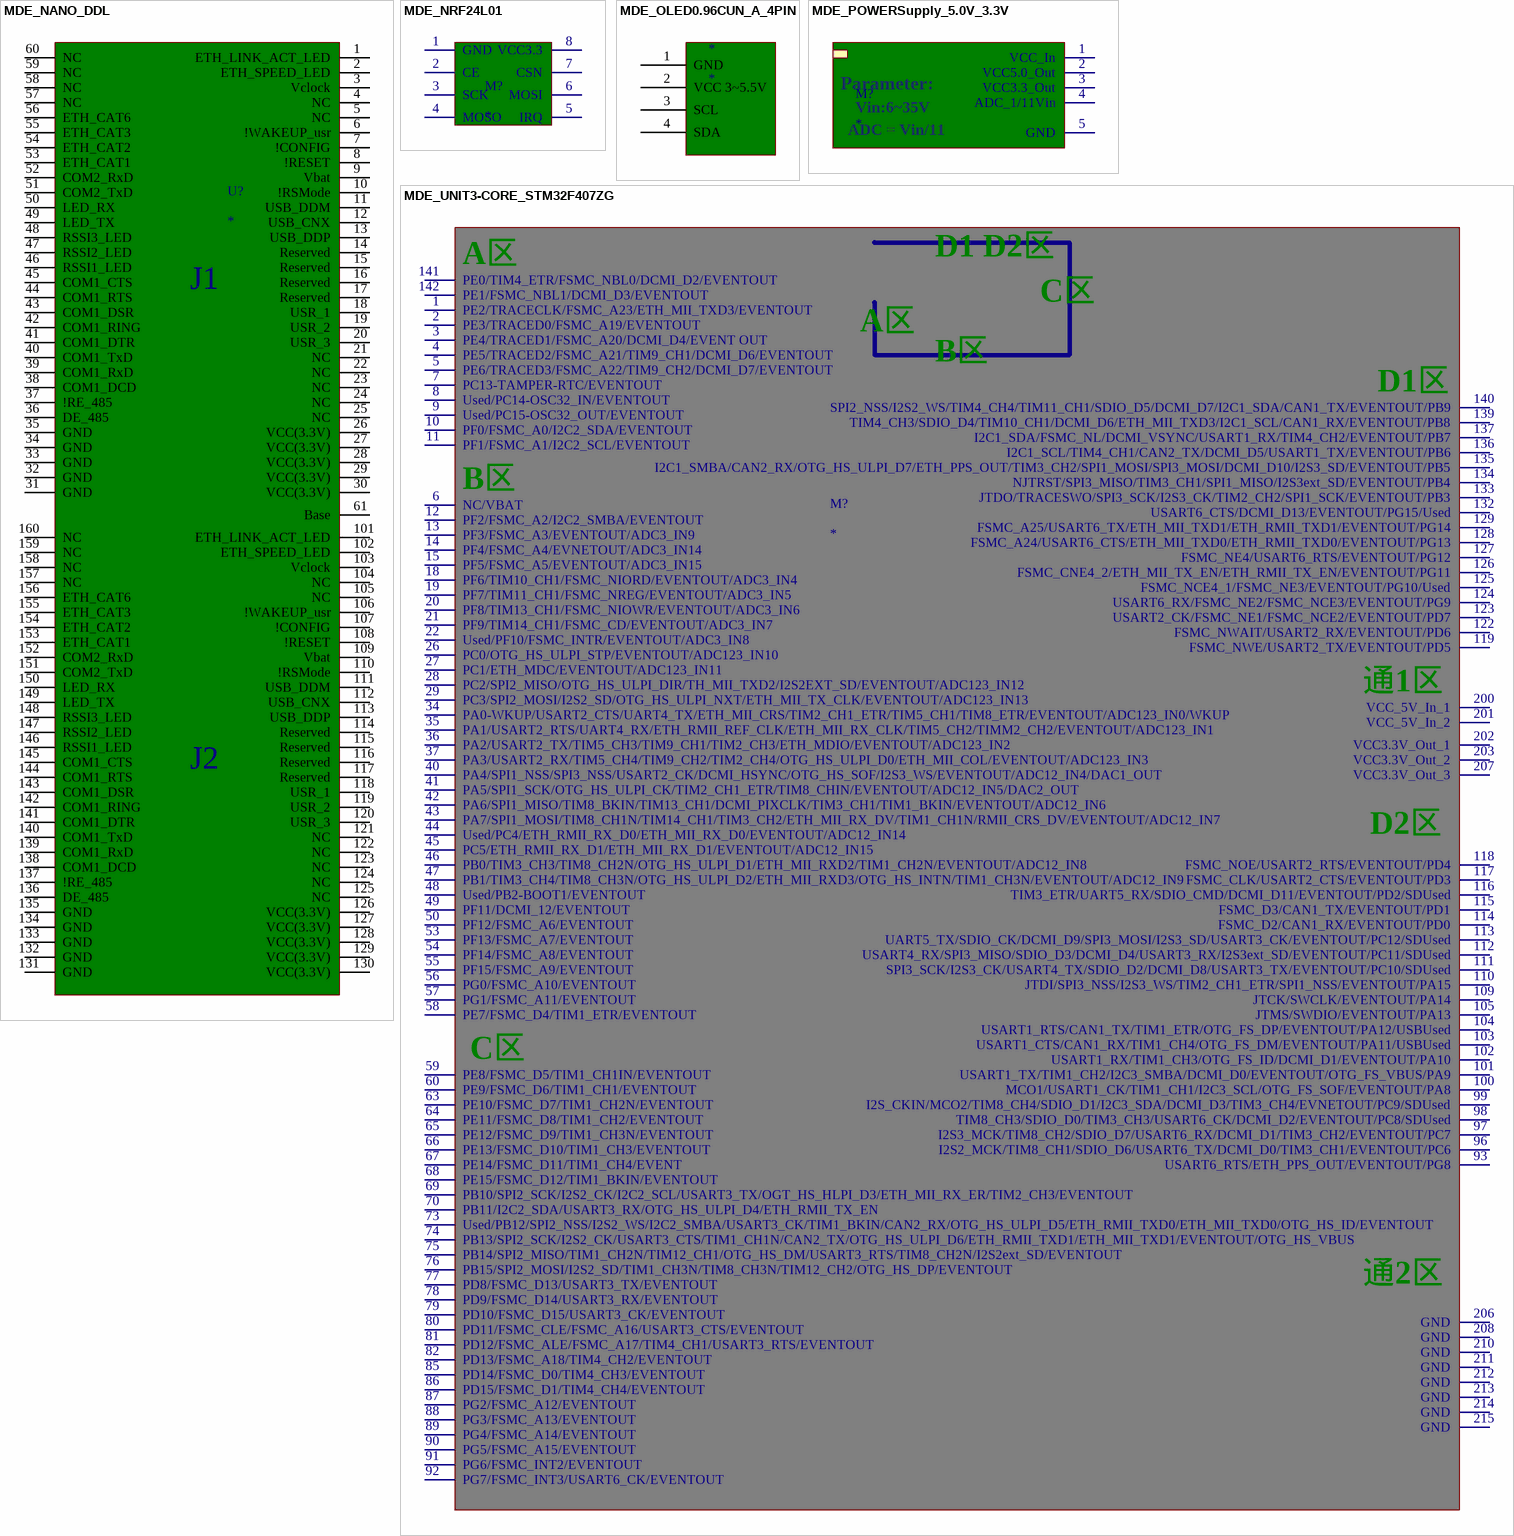
[diagram p7: symbols MDE_NANO_DDL to MDE_UNIT3-CORE_STM32F407ZG]

## MDE_NANO_DDL
designator U?
NANO数传模块
footprint MDE_Nano_DDL
pins: 1 ETH_LINK_ACT_LED, 2 ETH_SPEED_LED, 3 Vclock, 4 NC, 5 NC, 6 !WAKEUP_usr, 7 !CONFIG, 8 !RESET, 9 Vbat, 10 !RSMode, 11 USB_DDM, 12 USB_CNX, 13 USB_DDP, 14 Reserved, 15 Reserved, 16 Reserved, 17 Reserved, 18 USR_1, 19 USR_2, 20 USR_3, 21 NC, 22 NC, 23 NC, 24 NC, 25 NC, 26 VCC(3.3V), 27 VCC(3.3V), 28 VCC(3.3V), 29 VCC(3.3V), 30 VCC(3.3V), 31 GND, 32 GND, 33 GND, 34 GND, 35 GND, 36 DE_485, 37 !RE_485, 38 COM1_DCD, 39 COM1_RxD, 40 COM1_TxD, 41 COM1_DTR, 42 COM1_RING, 43 COM1_DSR, 44 COM1_RTS, 45 COM1_CTS, 46 RSSI1_LED, 47 RSSI2_LED, 48 RSSI3_LED, 49 LED_TX, 50 LED_RX, 51 COM2_TxD, 52 COM2_RxD, 53 ETH_CAT1, 54 ETH_CAT2, 55 ETH_CAT3, 56 ETH_CAT6, 57 NC, 58 NC, 59 NC, 60 NC, 61 Base, 101 ETH_LINK_ACT_LED, 102 ETH_SPEED_LED, 103 Vclock, 104 NC, 105 NC, 106 !WAKEUP_usr, 107 !CONFIG, 108 !RESET, 109 Vbat, 110 !RSMode, 111 USB_DDM, 112 USB_CNX, 113 USB_DDP, 114 Reserved, 115 Reserved, 116 Reserved, 117 Reserved, 118 USR_1, 119 USR_2, 120 USR_3, 121 NC, 122 NC, 123 NC, 124 NC, 125 NC, 126 VCC(3.3V), 127 VCC(3.3V), 128 VCC(3.3V), 129 VCC(3.3V), 130 VCC(3.3V), 131 GND, 132 GND, 133 GND, 134 GND, 135 GND, 136 DE_485, 137 !RE_485, 138 COM1_DCD, 139 COM1_RxD, 140 COM1_TxD, 141 COM1_DTR, 142 COM1_RING, 143 COM1_DSR, 144 COM1_RTS, 145 COM1_CTS, 146 RSSI1_LED, 147 RSSI2_LED, 148 RSSI3_LED, 149 LED_TX, 150 LED_RX, 151 COM2_TxD, 152 COM2_RxD, 153 ETH_CAT1, 154 ETH_CAT2, 155 ETH_CAT3, 156 ETH_CAT6, 157 NC, 158 NC, 159 NC, 160 NC
text: J1; J2

## MDE_NRF24L01
designator M?
直插型 NRF24L01无线模块
footprint MDE_NRF24L
pins: 1 GND, 2 CE, 3 SCK, 4 MOSO, 5 IRQ, 6 MOSI, 7 CSN, 8 VCC3.3

## MDE_OLED0.96CUN_A_4PIN
designator *
直插型 OLED 0.96寸
footprint MDE_OLED0.96CUN_A_4PIN
pins: 1 GND, 2 VCC 3~5.5V, 3 SCL, 4 SDA

## MDE_POWERSupply_5.0V_3.3V
designator M?
贴片型 电源模块
footprint MDE_POWERSupply_5.0V_3.3V
pins: 1 VCC_In, 2 VCC5.0_Out, 3 VCC3.3_Out, 4 ADC_1/11Vin, 5 GND
text: Parameter:; Vin:6~35V; ADC = Vin/11